# Altium integrated library Actel SmartFusion.IntLib: 80 symbols (part 1 of 14)
Pins are listed as number, name and electrical type; pins without a type are passive.

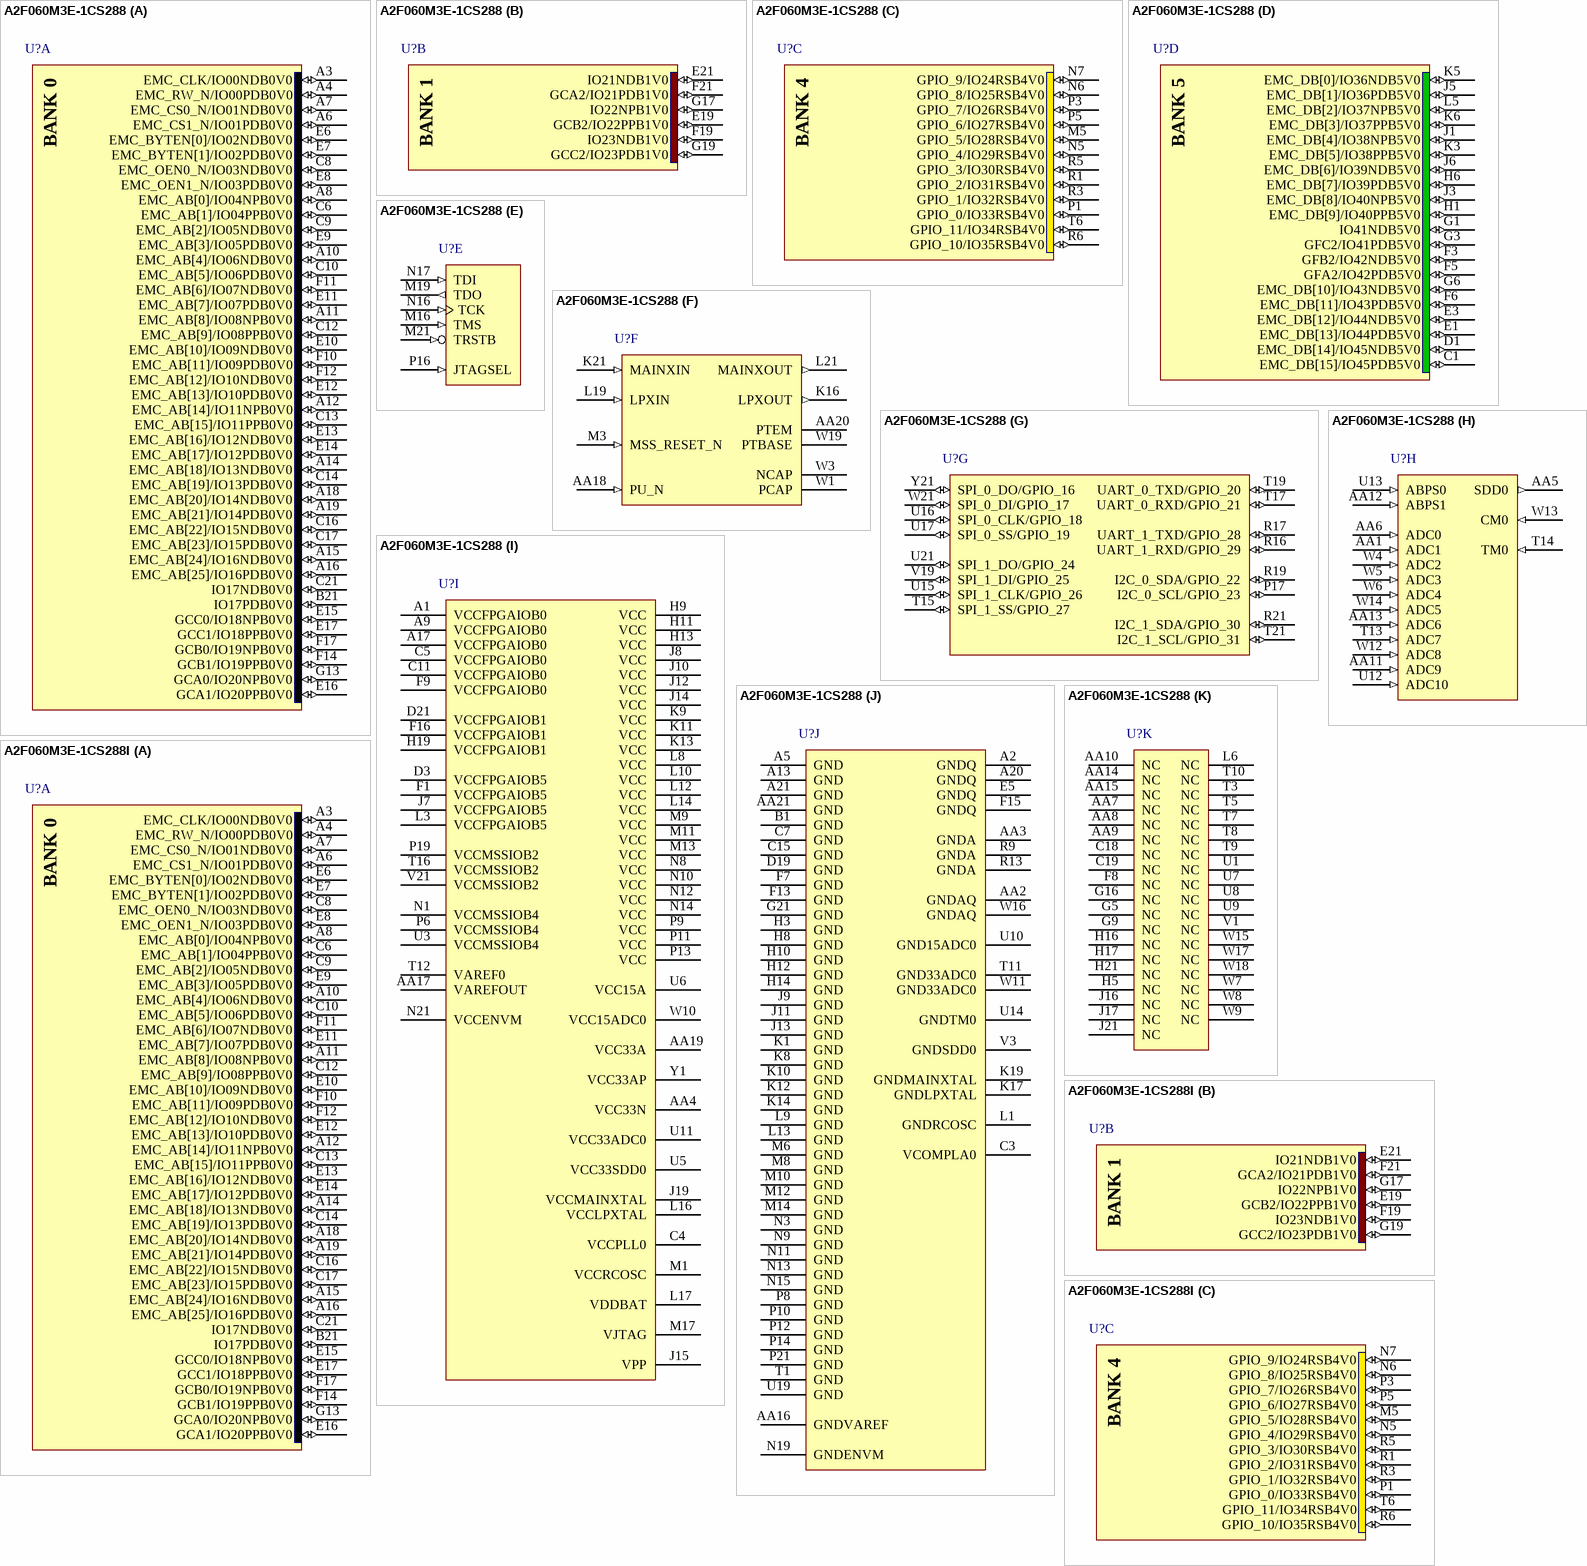
[diagram p0: symbols A2F060M3E-1CS288 to A2F060M3E-1CS288I]

## A2F060M3E-1CS288
designator U?
SmartFusion Intellegent Mixed-Signal FPGA with ARM Cortex-M3, 60000 System Gates, 288-Pin CSP, 15% Faster than Standard Speed Grade, Commercial Grade; DatasheetVersion: rev7, Aug-2011; PackageVersion: rev39, Aug-2010; PackageReference: CS288; PackageDescription: 288-Ball Chip Scale Ball Grid Array 0.5 mm Pitch (CS288); ComponentLink1Description: Manufacturer URL; ComponentLink1URL: http://www.actel.com/; ComponentLink2Description: SmartFusion Datasheet; ComponentLink2URL: http://www.actel.com/documents/SmartFusion_DS.pdf; ComponentLink3Description: Package Mechanical Drawings; ComponentLink3URL: http://www.actel.com/documents/PckgMechDrwngs.pdf; ComponentLink4Description: SmartFusion Documents; ComponentLink4URL: http://www.actel.com/products/smartfusion/docs.aspx
footprint CS288 (BGA, 288-Leads, Body 11x11mm, Pitch 0.5mm)
part A pins: A3 EMC_CLK/IO00NDB0V0 (io), A4 EMC_RW_N/IO00PDB0V0 (io), A6 EMC_CS1_N/IO01PDB0V0 (io), A7 EMC_CS0_N/IO01NDB0V0 (io), A8 EMC_AB[0]/IO04NPB0V0 (io), A10 EMC_AB[4]/IO06NDB0V0 (io), A11 EMC_AB[8]/IO08NPB0V0 (io), A12 EMC_AB[14]/IO11NPB0V0 (io), A14 EMC_AB[18]/IO13NDB0V0 (io), A15 EMC_AB[24]/IO16NDB0V0 (io), A16 EMC_AB[25]/IO16PDB0V0 (io), A18 EMC_AB[20]/IO14NDB0V0 (io), A19 EMC_AB[21]/IO14PDB0V0 (io), B21 IO17PDB0V0 (io), C6 EMC_AB[1]/IO04PPB0V0 (io), C8 EMC_OEN0_N/IO03NDB0V0 (io), C9 EMC_AB[2]/IO05NDB0V0 (io), C10 EMC_AB[5]/IO06PDB0V0 (io), C12 EMC_AB[9]/IO08PPB0V0 (io), C13 EMC_AB[15]/IO11PPB0V0 (io), C14 EMC_AB[19]/IO13PDB0V0 (io), C16 EMC_AB[22]/IO15NDB0V0 (io), C17 EMC_AB[23]/IO15PDB0V0 (io), C21 IO17NDB0V0 (io), E6 EMC_BYTEN[0]/IO02NDB0V0 (io), E7 EMC_BYTEN[1]/IO02PDB0V0 (io), E8 EMC_OEN1_N/IO03PDB0V0 (io), E9 EMC_AB[3]/IO05PDB0V0 (io), E10 EMC_AB[10]/IO09NDB0V0 (io), E11 EMC_AB[7]/IO07PDB0V0 (io), E12 EMC_AB[13]/IO10PDB0V0 (io), E13 EMC_AB[16]/IO12NDB0V0 (io), E14 EMC_AB[17]/IO12PDB0V0 (io), E15 GCC0/IO18NPB0V0 (io), E16 GCA1/IO20PPB0V0 (io), E17 GCC1/IO18PPB0V0 (io), F10 EMC_AB[11]/IO09PDB0V0 (io), F11 EMC_AB[6]/IO07NDB0V0 (io), F12 EMC_AB[12]/IO10NDB0V0 (io), F14 GCB1/IO19PPB0V0 (io), F17 GCB0/IO19NPB0V0 (io), G13 GCA0/IO20NPB0V0 (io)
part B pins: E19 GCB2/IO22PPB1V0 (io), E21 IO21NDB1V0 (io), F19 IO23NDB1V0 (io), F21 GCA2/IO21PDB1V0 (io), G17 IO22NPB1V0 (io), G19 GCC2/IO23PDB1V0 (io)
part C pins: M5 GPIO_5/IO28RSB4V0 (io), N5 GPIO_4/IO29RSB4V0 (io), N6 GPIO_8/IO25RSB4V0 (io), N7 GPIO_9/IO24RSB4V0 (io), P1 GPIO_0/IO33RSB4V0 (io), P3 GPIO_7/IO26RSB4V0 (io), P5 GPIO_6/IO27RSB4V0 (io), R1 GPIO_2/IO31RSB4V0 (io), R3 GPIO_1/IO32RSB4V0 (io), R5 GPIO_3/IO30RSB4V0 (io), R6 GPIO_10/IO35RSB4V0 (io), T6 GPIO_11/IO34RSB4V0 (io)
part D pins: C1 EMC_DB[15]/IO45PDB5V0 (io), D1 EMC_DB[14]/IO45NDB5V0 (io), E1 EMC_DB[13]/IO44PDB5V0 (io), E3 EMC_DB[12]/IO44NDB5V0 (io), F3 GFB2/IO42NDB5V0 (io), F5 GFA2/IO42PDB5V0 (io), F6 EMC_DB[11]/IO43PDB5V0 (io), G1 IO41NDB5V0 (io), G3 GFC2/IO41PDB5V0 (io), G6 EMC_DB[10]/IO43NDB5V0 (io), H1 EMC_DB[9]/IO40PPB5V0 (io), H6 EMC_DB[7]/IO39PDB5V0 (io), J1 EMC_DB[4]/IO38NPB5V0 (io), J3 EMC_DB[8]/IO40NPB5V0 (io), J5 EMC_DB[1]/IO36PDB5V0 (io), J6 EMC_DB[6]/IO39NDB5V0 (io), K3 EMC_DB[5]/IO38PPB5V0 (io), K5 EMC_DB[0]/IO36NDB5V0 (io), K6 EMC_DB[3]/IO37PPB5V0 (io), L5 EMC_DB[2]/IO37NPB5V0 (io)
part E pins: M16 TMS (in), M19 TDO (out), M21 TRSTB (in), N16 TCK (in), N17 TDI (in), P16 JTAGSEL (in)
part F pins: AA18 PU_N (in), AA20 PTEM, K16 LPXOUT (out), K21 MAINXIN (in), L19 LPXIN (in), L21 MAINXOUT (out), M3 MSS_RESET_N (in), W1 PCAP, W3 NCAP, W19 PTBASE
part G pins: P17 I2C_0_SCL/GPIO_23 (io), R16 UART_1_RXD/GPIO_29 (io), R17 UART_1_TXD/GPIO_28 (io), R19 I2C_0_SDA/GPIO_22 (io), R21 I2C_1_SDA/GPIO_30 (io), T15 SPI_1_SS/GPIO_27 (io), T17 UART_0_RXD/GPIO_21 (io), T19 UART_0_TXD/GPIO_20 (io), T21 I2C_1_SCL/GPIO_31 (io), U15 SPI_1_CLK/GPIO_26 (io), U16 SPI_0_CLK/GPIO_18 (io), U17 SPI_0_SS/GPIO_19 (io), U21 SPI_1_DO/GPIO_24 (io), V19 SPI_1_DI/GPIO_25 (io), W21 SPI_0_DI/GPIO_17 (io), Y21 SPI_0_DO/GPIO_16 (io)
part H pins: AA1 ADC1 (in), AA5 SDD0 (out), AA6 ADC0 (in), AA11 ADC9 (in), AA12 ABPS1 (in), AA13 ADC6 (in), T13 ADC7 (in), T14 TM0 (in), U12 ADC10 (in), U13 ABPS0 (in), W4 ADC2 (in), W5 ADC3 (in), W6 ADC4 (in), W12 ADC8 (in), W13 CM0 (in), W14 ADC5 (in)
part I pins: A1 VCCFPGAIOB0 (power), A9 VCCFPGAIOB0 (power), A17 VCCFPGAIOB0 (power), AA4 VCC33N (power), AA17 VAREFOUT (power), AA19 VCC33A (power), C4 VCCPLL0 (power), C5 VCCFPGAIOB0 (power), C11 VCCFPGAIOB0 (power), D3 VCCFPGAIOB5 (power), D21 VCCFPGAIOB1 (power), F1 VCCFPGAIOB5 (power), F9 VCCFPGAIOB0 (power), F16 VCCFPGAIOB1 (power), H9 VCC (power), H11 VCC (power), H13 VCC (power), H19 VCCFPGAIOB1 (power), J7 VCCFPGAIOB5 (power), J8 VCC (power), J10 VCC (power), J12 VCC (power), J14 VCC (power), J15 VPP (power), J19 VCCMAINXTAL (power), K9 VCC (power), K11 VCC (power), K13 VCC (power), L3 VCCFPGAIOB5 (power), L8 VCC (power), L10 VCC (power), L12 VCC (power), L14 VCC (power), L16 VCCLPXTAL (power), L17 VDDBAT (power), M1 VCCRCOSC (power), M9 VCC (power), M11 VCC (power), M13 VCC (power), M17 VJTAG (power), N1 VCCMSSIOB4 (power), N8 VCC (power), N10 VCC (power), N12 VCC (power), N14 VCC (power), N21 VCCENVM (power), P6 VCCMSSIOB4 (power), P9 VCC (power), P11 VCC (power), P13 VCC (power), P19 VCCMSSIOB2 (power), T12 VAREF0 (power), T16 VCCMSSIOB2 (power), U3 VCCMSSIOB4 (power), U5 VCC33SDD0 (power), U6 VCC15A (power), U11 VCC33ADC0 (power), V21 VCCMSSIOB2 (power), W10 VCC15ADC0 (power), Y1 VCC33AP (power)
part J pins: A2 GNDQ (power), A5 GND (power), A13 GND (power), A20 GNDQ (power), A21 GND (power), AA2 GNDAQ (power), AA3 GNDA (power), AA16 GNDVAREF (power), AA21 GND (power), B1 GND (power), C3 VCOMPLA0 (power), C7 GND (power), C15 GND (power), D19 GND (power), E5 GNDQ (power), F7 GND (power), F13 GND (power), F15 GNDQ (power), G21 GND (power), H3 GND (power), H8 GND (power), H10 GND (power), H12 GND (power), H14 GND (power), J9 GND (power), J11 GND (power), J13 GND (power), K1 GND (power), K8 GND (power), K10 GND (power), K12 GND (power), K14 GND (power), K17 GNDLPXTAL (power), K19 GNDMAINXTAL (power), L1 GNDRCOSC (power), L9 GND (power), L13 GND (power), M6 GND (power), M8 GND (power), M10 GND (power), M12 GND (power), M14 GND (power), N3 GND (power), N9 GND (power), N11 GND (power), N13 GND (power), N15 GND (power), N19 GNDENVM (power), P8 GND (power), P10 GND (power), P12 GND (power), P14 GND (power), P21 GND (power), R9 GNDA (power), R13 GNDA (power), T1 GND (power), T11 GND33ADC0 (power), U10 GND15ADC0 (power), U14 GNDTM0 (power), U19 GND (power), V3 GNDSDD0 (power), W11 GND33ADC0 (power), W16 GNDAQ (power)
part K pins: AA7 NC, AA8 NC, AA9 NC, AA10 NC, AA14 NC, AA15 NC, C18 NC, C19 NC, F8 NC, G5 NC, G9 NC, G16 NC, H5 NC, H16 NC, H17 NC, H21 NC, J16 NC, J17 NC, J21 NC, L6 NC, T3 NC, T5 NC, T7 NC, T8 NC, T9 NC, T10 NC, U1 NC, U7 NC, U8 NC, U9 NC, V1 NC, W7 NC, W8 NC, W9 NC, W15 NC, W17 NC, W18 NC
part A text: BANK 0
part B text: BANK 1
part C text: BANK 4
part D text: BANK 5

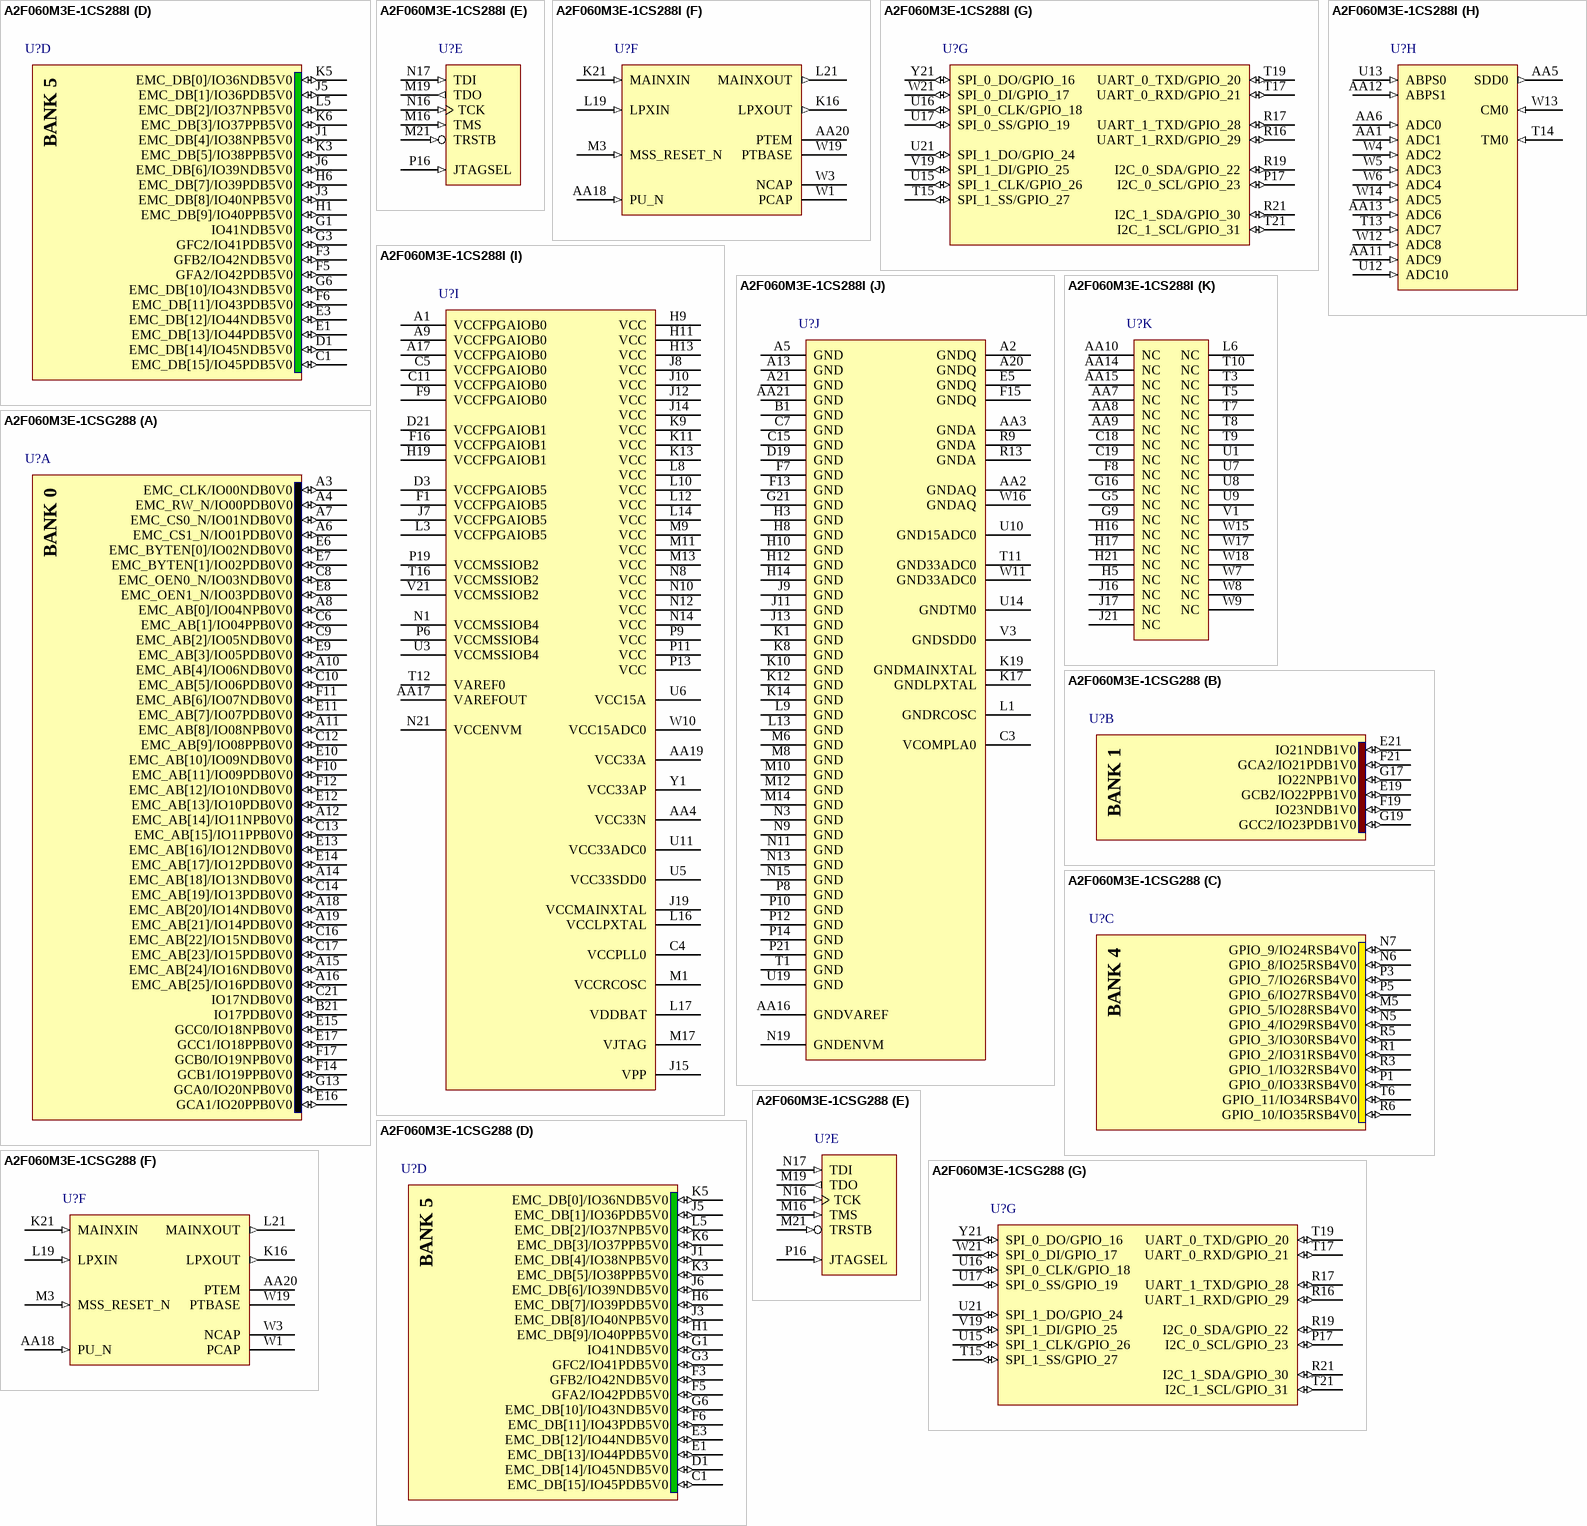
[diagram p1: symbols A2F060M3E-1CS288I to A2F060M3E-1CSG288]

## A2F060M3E-1CS288I
designator U?
SmartFusion Intellegent Mixed-Signal FPGA with ARM Cortex-M3, 60000 System Gates, 288-Pin CSP, 15% Faster than Standard Speed Grade, Industrial Grade; DatasheetVersion: rev7, Aug-2011; PackageVersion: rev39, Aug-2010; PackageReference: CS288; PackageDescription: 288-Ball Chip Scale Ball Grid Array 0.5 mm Pitch (CS288); ComponentLink1Description: Manufacturer URL; ComponentLink1URL: http://www.actel.com/; ComponentLink2Description: SmartFusion Datasheet; ComponentLink2URL: http://www.actel.com/documents/SmartFusion_DS.pdf; ComponentLink3Description: Package Mechanical Drawings; ComponentLink3URL: http://www.actel.com/documents/PckgMechDrwngs.pdf; ComponentLink4Description: SmartFusion Documents; ComponentLink4URL: http://www.actel.com/products/smartfusion/docs.aspx
footprint CS288 (BGA, 288-Leads, Body 11x11mm, Pitch 0.5mm)
part A pins: A3 EMC_CLK/IO00NDB0V0 (io), A4 EMC_RW_N/IO00PDB0V0 (io), A6 EMC_CS1_N/IO01PDB0V0 (io), A7 EMC_CS0_N/IO01NDB0V0 (io), A8 EMC_AB[0]/IO04NPB0V0 (io), A10 EMC_AB[4]/IO06NDB0V0 (io), A11 EMC_AB[8]/IO08NPB0V0 (io), A12 EMC_AB[14]/IO11NPB0V0 (io), A14 EMC_AB[18]/IO13NDB0V0 (io), A15 EMC_AB[24]/IO16NDB0V0 (io), A16 EMC_AB[25]/IO16PDB0V0 (io), A18 EMC_AB[20]/IO14NDB0V0 (io), A19 EMC_AB[21]/IO14PDB0V0 (io), B21 IO17PDB0V0 (io), C6 EMC_AB[1]/IO04PPB0V0 (io), C8 EMC_OEN0_N/IO03NDB0V0 (io), C9 EMC_AB[2]/IO05NDB0V0 (io), C10 EMC_AB[5]/IO06PDB0V0 (io), C12 EMC_AB[9]/IO08PPB0V0 (io), C13 EMC_AB[15]/IO11PPB0V0 (io), C14 EMC_AB[19]/IO13PDB0V0 (io), C16 EMC_AB[22]/IO15NDB0V0 (io), C17 EMC_AB[23]/IO15PDB0V0 (io), C21 IO17NDB0V0 (io), E6 EMC_BYTEN[0]/IO02NDB0V0 (io), E7 EMC_BYTEN[1]/IO02PDB0V0 (io), E8 EMC_OEN1_N/IO03PDB0V0 (io), E9 EMC_AB[3]/IO05PDB0V0 (io), E10 EMC_AB[10]/IO09NDB0V0 (io), E11 EMC_AB[7]/IO07PDB0V0 (io), E12 EMC_AB[13]/IO10PDB0V0 (io), E13 EMC_AB[16]/IO12NDB0V0 (io), E14 EMC_AB[17]/IO12PDB0V0 (io), E15 GCC0/IO18NPB0V0 (io), E16 GCA1/IO20PPB0V0 (io), E17 GCC1/IO18PPB0V0 (io), F10 EMC_AB[11]/IO09PDB0V0 (io), F11 EMC_AB[6]/IO07NDB0V0 (io), F12 EMC_AB[12]/IO10NDB0V0 (io), F14 GCB1/IO19PPB0V0 (io), F17 GCB0/IO19NPB0V0 (io), G13 GCA0/IO20NPB0V0 (io)
part B pins: E19 GCB2/IO22PPB1V0 (io), E21 IO21NDB1V0 (io), F19 IO23NDB1V0 (io), F21 GCA2/IO21PDB1V0 (io), G17 IO22NPB1V0 (io), G19 GCC2/IO23PDB1V0 (io)
part C pins: M5 GPIO_5/IO28RSB4V0 (io), N5 GPIO_4/IO29RSB4V0 (io), N6 GPIO_8/IO25RSB4V0 (io), N7 GPIO_9/IO24RSB4V0 (io), P1 GPIO_0/IO33RSB4V0 (io), P3 GPIO_7/IO26RSB4V0 (io), P5 GPIO_6/IO27RSB4V0 (io), R1 GPIO_2/IO31RSB4V0 (io), R3 GPIO_1/IO32RSB4V0 (io), R5 GPIO_3/IO30RSB4V0 (io), R6 GPIO_10/IO35RSB4V0 (io), T6 GPIO_11/IO34RSB4V0 (io)
part D pins: C1 EMC_DB[15]/IO45PDB5V0 (io), D1 EMC_DB[14]/IO45NDB5V0 (io), E1 EMC_DB[13]/IO44PDB5V0 (io), E3 EMC_DB[12]/IO44NDB5V0 (io), F3 GFB2/IO42NDB5V0 (io), F5 GFA2/IO42PDB5V0 (io), F6 EMC_DB[11]/IO43PDB5V0 (io), G1 IO41NDB5V0 (io), G3 GFC2/IO41PDB5V0 (io), G6 EMC_DB[10]/IO43NDB5V0 (io), H1 EMC_DB[9]/IO40PPB5V0 (io), H6 EMC_DB[7]/IO39PDB5V0 (io), J1 EMC_DB[4]/IO38NPB5V0 (io), J3 EMC_DB[8]/IO40NPB5V0 (io), J5 EMC_DB[1]/IO36PDB5V0 (io), J6 EMC_DB[6]/IO39NDB5V0 (io), K3 EMC_DB[5]/IO38PPB5V0 (io), K5 EMC_DB[0]/IO36NDB5V0 (io), K6 EMC_DB[3]/IO37PPB5V0 (io), L5 EMC_DB[2]/IO37NPB5V0 (io)
part E pins: M16 TMS (in), M19 TDO (out), M21 TRSTB (in), N16 TCK (in), N17 TDI (in), P16 JTAGSEL (in)
part F pins: AA18 PU_N (in), AA20 PTEM, K16 LPXOUT (out), K21 MAINXIN (in), L19 LPXIN (in), L21 MAINXOUT (out), M3 MSS_RESET_N (in), W1 PCAP, W3 NCAP, W19 PTBASE
part G pins: P17 I2C_0_SCL/GPIO_23 (io), R16 UART_1_RXD/GPIO_29 (io), R17 UART_1_TXD/GPIO_28 (io), R19 I2C_0_SDA/GPIO_22 (io), R21 I2C_1_SDA/GPIO_30 (io), T15 SPI_1_SS/GPIO_27 (io), T17 UART_0_RXD/GPIO_21 (io), T19 UART_0_TXD/GPIO_20 (io), T21 I2C_1_SCL/GPIO_31 (io), U15 SPI_1_CLK/GPIO_26 (io), U16 SPI_0_CLK/GPIO_18 (io), U17 SPI_0_SS/GPIO_19 (io), U21 SPI_1_DO/GPIO_24 (io), V19 SPI_1_DI/GPIO_25 (io), W21 SPI_0_DI/GPIO_17 (io), Y21 SPI_0_DO/GPIO_16 (io)
part H pins: AA1 ADC1 (in), AA5 SDD0 (out), AA6 ADC0 (in), AA11 ADC9 (in), AA12 ABPS1 (in), AA13 ADC6 (in), T13 ADC7 (in), T14 TM0 (in), U12 ADC10 (in), U13 ABPS0 (in), W4 ADC2 (in), W5 ADC3 (in), W6 ADC4 (in), W12 ADC8 (in), W13 CM0 (in), W14 ADC5 (in)
part I pins: A1 VCCFPGAIOB0 (power), A9 VCCFPGAIOB0 (power), A17 VCCFPGAIOB0 (power), AA4 VCC33N (power), AA17 VAREFOUT (power), AA19 VCC33A (power), C4 VCCPLL0 (power), C5 VCCFPGAIOB0 (power), C11 VCCFPGAIOB0 (power), D3 VCCFPGAIOB5 (power), D21 VCCFPGAIOB1 (power), F1 VCCFPGAIOB5 (power), F9 VCCFPGAIOB0 (power), F16 VCCFPGAIOB1 (power), H9 VCC (power), H11 VCC (power), H13 VCC (power), H19 VCCFPGAIOB1 (power), J7 VCCFPGAIOB5 (power), J8 VCC (power), J10 VCC (power), J12 VCC (power), J14 VCC (power), J15 VPP (power), J19 VCCMAINXTAL (power), K9 VCC (power), K11 VCC (power), K13 VCC (power), L3 VCCFPGAIOB5 (power), L8 VCC (power), L10 VCC (power), L12 VCC (power), L14 VCC (power), L16 VCCLPXTAL (power), L17 VDDBAT (power), M1 VCCRCOSC (power), M9 VCC (power), M11 VCC (power), M13 VCC (power), M17 VJTAG (power), N1 VCCMSSIOB4 (power), N8 VCC (power), N10 VCC (power), N12 VCC (power), N14 VCC (power), N21 VCCENVM (power), P6 VCCMSSIOB4 (power), P9 VCC (power), P11 VCC (power), P13 VCC (power), P19 VCCMSSIOB2 (power), T12 VAREF0 (power), T16 VCCMSSIOB2 (power), U3 VCCMSSIOB4 (power), U5 VCC33SDD0 (power), U6 VCC15A (power), U11 VCC33ADC0 (power), V21 VCCMSSIOB2 (power), W10 VCC15ADC0 (power), Y1 VCC33AP (power)
part J pins: A2 GNDQ (power), A5 GND (power), A13 GND (power), A20 GNDQ (power), A21 GND (power), AA2 GNDAQ (power), AA3 GNDA (power), AA16 GNDVAREF (power), AA21 GND (power), B1 GND (power), C3 VCOMPLA0 (power), C7 GND (power), C15 GND (power), D19 GND (power), E5 GNDQ (power), F7 GND (power), F13 GND (power), F15 GNDQ (power), G21 GND (power), H3 GND (power), H8 GND (power), H10 GND (power), H12 GND (power), H14 GND (power), J9 GND (power), J11 GND (power), J13 GND (power), K1 GND (power), K8 GND (power), K10 GND (power), K12 GND (power), K14 GND (power), K17 GNDLPXTAL (power), K19 GNDMAINXTAL (power), L1 GNDRCOSC (power), L9 GND (power), L13 GND (power), M6 GND (power), M8 GND (power), M10 GND (power), M12 GND (power), M14 GND (power), N3 GND (power), N9 GND (power), N11 GND (power), N13 GND (power), N15 GND (power), N19 GNDENVM (power), P8 GND (power), P10 GND (power), P12 GND (power), P14 GND (power), P21 GND (power), R9 GNDA (power), R13 GNDA (power), T1 GND (power), T11 GND33ADC0 (power), U10 GND15ADC0 (power), U14 GNDTM0 (power), U19 GND (power), V3 GNDSDD0 (power), W11 GND33ADC0 (power), W16 GNDAQ (power)
part K pins: AA7 NC, AA8 NC, AA9 NC, AA10 NC, AA14 NC, AA15 NC, C18 NC, C19 NC, F8 NC, G5 NC, G9 NC, G16 NC, H5 NC, H16 NC, H17 NC, H21 NC, J16 NC, J17 NC, J21 NC, L6 NC, T3 NC, T5 NC, T7 NC, T8 NC, T9 NC, T10 NC, U1 NC, U7 NC, U8 NC, U9 NC, V1 NC, W7 NC, W8 NC, W9 NC, W15 NC, W17 NC, W18 NC
part A text: BANK 0
part B text: BANK 1
part C text: BANK 4
part D text: BANK 5

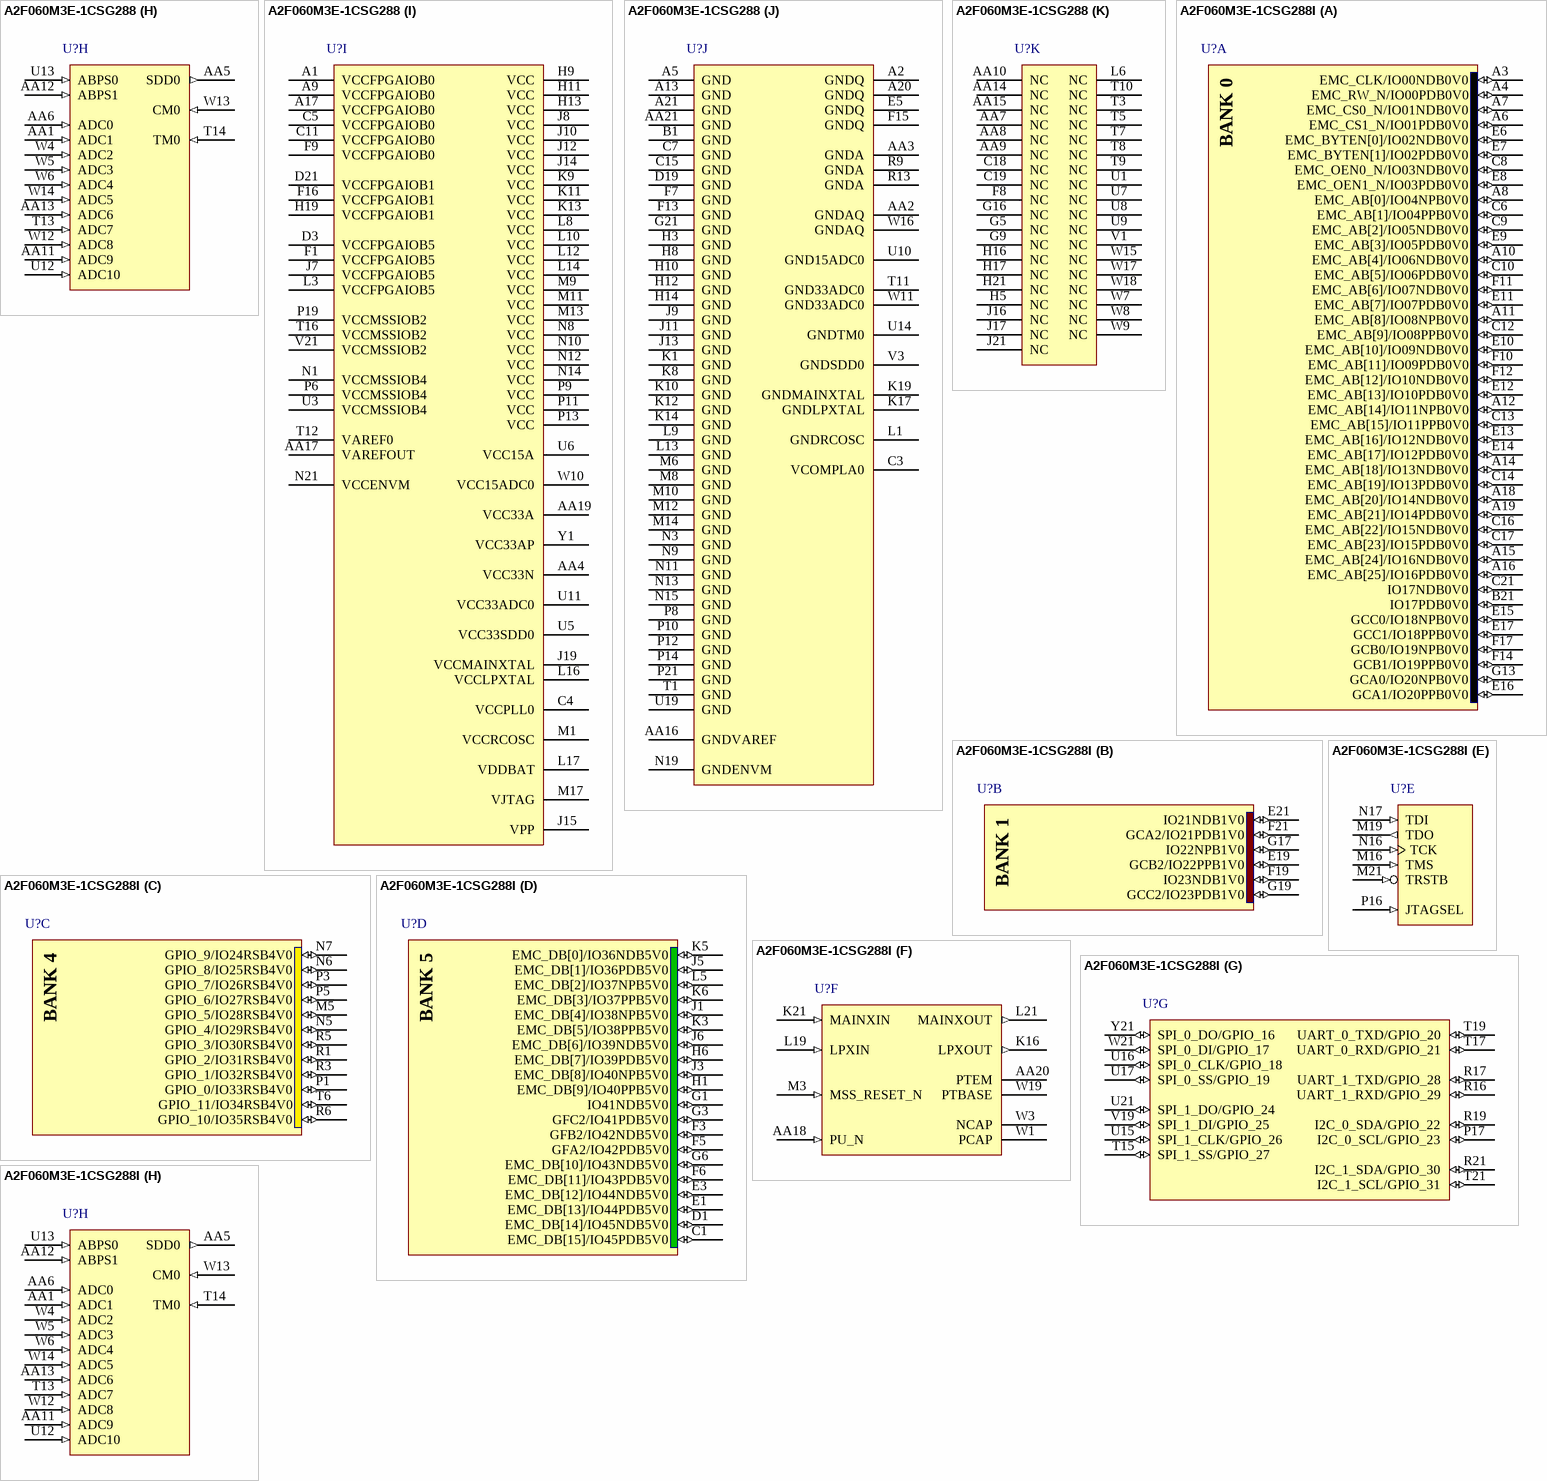
[diagram p2: symbols A2F060M3E-1CSG288 to A2F060M3E-1CSG288I]

## A2F060M3E-1CSG288
designator U?
SmartFusion Intellegent Mixed-Signal FPGA with ARM Cortex-M3, 60000 System Gates, 288-Pin CSP, 15% Faster than Standard Speed Grade, Commercial Grade, Pb-Free; DatasheetVersion: rev7, Aug-2011; PackageVersion: rev39, Aug-2010; PackageReference: CS288; PackageDescription: 288-Ball Chip Scale Ball Grid Array 0.5 mm Pitch (CS288); ComponentLink1Description: Manufacturer URL; ComponentLink1URL: http://www.actel.com/; ComponentLink2Description: SmartFusion Datasheet; ComponentLink2URL: http://www.actel.com/documents/SmartFusion_DS.pdf; ComponentLink3Description: Package Mechanical Drawings; ComponentLink3URL: http://www.actel.com/documents/PckgMechDrwngs.pdf; ComponentLink4Description: SmartFusion Documents; ComponentLink4URL: http://www.actel.com/products/smartfusion/docs.aspx
footprint CS288 (BGA, 288-Leads, Body 11x11mm, Pitch 0.5mm)
part A pins: A3 EMC_CLK/IO00NDB0V0 (io), A4 EMC_RW_N/IO00PDB0V0 (io), A6 EMC_CS1_N/IO01PDB0V0 (io), A7 EMC_CS0_N/IO01NDB0V0 (io), A8 EMC_AB[0]/IO04NPB0V0 (io), A10 EMC_AB[4]/IO06NDB0V0 (io), A11 EMC_AB[8]/IO08NPB0V0 (io), A12 EMC_AB[14]/IO11NPB0V0 (io), A14 EMC_AB[18]/IO13NDB0V0 (io), A15 EMC_AB[24]/IO16NDB0V0 (io), A16 EMC_AB[25]/IO16PDB0V0 (io), A18 EMC_AB[20]/IO14NDB0V0 (io), A19 EMC_AB[21]/IO14PDB0V0 (io), B21 IO17PDB0V0 (io), C6 EMC_AB[1]/IO04PPB0V0 (io), C8 EMC_OEN0_N/IO03NDB0V0 (io), C9 EMC_AB[2]/IO05NDB0V0 (io), C10 EMC_AB[5]/IO06PDB0V0 (io), C12 EMC_AB[9]/IO08PPB0V0 (io), C13 EMC_AB[15]/IO11PPB0V0 (io), C14 EMC_AB[19]/IO13PDB0V0 (io), C16 EMC_AB[22]/IO15NDB0V0 (io), C17 EMC_AB[23]/IO15PDB0V0 (io), C21 IO17NDB0V0 (io), E6 EMC_BYTEN[0]/IO02NDB0V0 (io), E7 EMC_BYTEN[1]/IO02PDB0V0 (io), E8 EMC_OEN1_N/IO03PDB0V0 (io), E9 EMC_AB[3]/IO05PDB0V0 (io), E10 EMC_AB[10]/IO09NDB0V0 (io), E11 EMC_AB[7]/IO07PDB0V0 (io), E12 EMC_AB[13]/IO10PDB0V0 (io), E13 EMC_AB[16]/IO12NDB0V0 (io), E14 EMC_AB[17]/IO12PDB0V0 (io), E15 GCC0/IO18NPB0V0 (io), E16 GCA1/IO20PPB0V0 (io), E17 GCC1/IO18PPB0V0 (io), F10 EMC_AB[11]/IO09PDB0V0 (io), F11 EMC_AB[6]/IO07NDB0V0 (io), F12 EMC_AB[12]/IO10NDB0V0 (io), F14 GCB1/IO19PPB0V0 (io), F17 GCB0/IO19NPB0V0 (io), G13 GCA0/IO20NPB0V0 (io)
part B pins: E19 GCB2/IO22PPB1V0 (io), E21 IO21NDB1V0 (io), F19 IO23NDB1V0 (io), F21 GCA2/IO21PDB1V0 (io), G17 IO22NPB1V0 (io), G19 GCC2/IO23PDB1V0 (io)
part C pins: M5 GPIO_5/IO28RSB4V0 (io), N5 GPIO_4/IO29RSB4V0 (io), N6 GPIO_8/IO25RSB4V0 (io), N7 GPIO_9/IO24RSB4V0 (io), P1 GPIO_0/IO33RSB4V0 (io), P3 GPIO_7/IO26RSB4V0 (io), P5 GPIO_6/IO27RSB4V0 (io), R1 GPIO_2/IO31RSB4V0 (io), R3 GPIO_1/IO32RSB4V0 (io), R5 GPIO_3/IO30RSB4V0 (io), R6 GPIO_10/IO35RSB4V0 (io), T6 GPIO_11/IO34RSB4V0 (io)
part D pins: C1 EMC_DB[15]/IO45PDB5V0 (io), D1 EMC_DB[14]/IO45NDB5V0 (io), E1 EMC_DB[13]/IO44PDB5V0 (io), E3 EMC_DB[12]/IO44NDB5V0 (io), F3 GFB2/IO42NDB5V0 (io), F5 GFA2/IO42PDB5V0 (io), F6 EMC_DB[11]/IO43PDB5V0 (io), G1 IO41NDB5V0 (io), G3 GFC2/IO41PDB5V0 (io), G6 EMC_DB[10]/IO43NDB5V0 (io), H1 EMC_DB[9]/IO40PPB5V0 (io), H6 EMC_DB[7]/IO39PDB5V0 (io), J1 EMC_DB[4]/IO38NPB5V0 (io), J3 EMC_DB[8]/IO40NPB5V0 (io), J5 EMC_DB[1]/IO36PDB5V0 (io), J6 EMC_DB[6]/IO39NDB5V0 (io), K3 EMC_DB[5]/IO38PPB5V0 (io), K5 EMC_DB[0]/IO36NDB5V0 (io), K6 EMC_DB[3]/IO37PPB5V0 (io), L5 EMC_DB[2]/IO37NPB5V0 (io)
part E pins: M16 TMS (in), M19 TDO (out), M21 TRSTB (in), N16 TCK (in), N17 TDI (in), P16 JTAGSEL (in)
part F pins: AA18 PU_N (in), AA20 PTEM, K16 LPXOUT (out), K21 MAINXIN (in), L19 LPXIN (in), L21 MAINXOUT (out), M3 MSS_RESET_N (in), W1 PCAP, W3 NCAP, W19 PTBASE
part G pins: P17 I2C_0_SCL/GPIO_23 (io), R16 UART_1_RXD/GPIO_29 (io), R17 UART_1_TXD/GPIO_28 (io), R19 I2C_0_SDA/GPIO_22 (io), R21 I2C_1_SDA/GPIO_30 (io), T15 SPI_1_SS/GPIO_27 (io), T17 UART_0_RXD/GPIO_21 (io), T19 UART_0_TXD/GPIO_20 (io), T21 I2C_1_SCL/GPIO_31 (io), U15 SPI_1_CLK/GPIO_26 (io), U16 SPI_0_CLK/GPIO_18 (io), U17 SPI_0_SS/GPIO_19 (io), U21 SPI_1_DO/GPIO_24 (io), V19 SPI_1_DI/GPIO_25 (io), W21 SPI_0_DI/GPIO_17 (io), Y21 SPI_0_DO/GPIO_16 (io)
part H pins: AA1 ADC1 (in), AA5 SDD0 (out), AA6 ADC0 (in), AA11 ADC9 (in), AA12 ABPS1 (in), AA13 ADC6 (in), T13 ADC7 (in), T14 TM0 (in), U12 ADC10 (in), U13 ABPS0 (in), W4 ADC2 (in), W5 ADC3 (in), W6 ADC4 (in), W12 ADC8 (in), W13 CM0 (in), W14 ADC5 (in)
part I pins: A1 VCCFPGAIOB0 (power), A9 VCCFPGAIOB0 (power), A17 VCCFPGAIOB0 (power), AA4 VCC33N (power), AA17 VAREFOUT (power), AA19 VCC33A (power), C4 VCCPLL0 (power), C5 VCCFPGAIOB0 (power), C11 VCCFPGAIOB0 (power), D3 VCCFPGAIOB5 (power), D21 VCCFPGAIOB1 (power), F1 VCCFPGAIOB5 (power), F9 VCCFPGAIOB0 (power), F16 VCCFPGAIOB1 (power), H9 VCC (power), H11 VCC (power), H13 VCC (power), H19 VCCFPGAIOB1 (power), J7 VCCFPGAIOB5 (power), J8 VCC (power), J10 VCC (power), J12 VCC (power), J14 VCC (power), J15 VPP (power), J19 VCCMAINXTAL (power), K9 VCC (power), K11 VCC (power), K13 VCC (power), L3 VCCFPGAIOB5 (power), L8 VCC (power), L10 VCC (power), L12 VCC (power), L14 VCC (power), L16 VCCLPXTAL (power), L17 VDDBAT (power), M1 VCCRCOSC (power), M9 VCC (power), M11 VCC (power), M13 VCC (power), M17 VJTAG (power), N1 VCCMSSIOB4 (power), N8 VCC (power), N10 VCC (power), N12 VCC (power), N14 VCC (power), N21 VCCENVM (power), P6 VCCMSSIOB4 (power), P9 VCC (power), P11 VCC (power), P13 VCC (power), P19 VCCMSSIOB2 (power), T12 VAREF0 (power), T16 VCCMSSIOB2 (power), U3 VCCMSSIOB4 (power), U5 VCC33SDD0 (power), U6 VCC15A (power), U11 VCC33ADC0 (power), V21 VCCMSSIOB2 (power), W10 VCC15ADC0 (power), Y1 VCC33AP (power)
part J pins: A2 GNDQ (power), A5 GND (power), A13 GND (power), A20 GNDQ (power), A21 GND (power), AA2 GNDAQ (power), AA3 GNDA (power), AA16 GNDVAREF (power), AA21 GND (power), B1 GND (power), C3 VCOMPLA0 (power), C7 GND (power), C15 GND (power), D19 GND (power), E5 GNDQ (power), F7 GND (power), F13 GND (power), F15 GNDQ (power), G21 GND (power), H3 GND (power), H8 GND (power), H10 GND (power), H12 GND (power), H14 GND (power), J9 GND (power), J11 GND (power), J13 GND (power), K1 GND (power), K8 GND (power), K10 GND (power), K12 GND (power), K14 GND (power), K17 GNDLPXTAL (power), K19 GNDMAINXTAL (power), L1 GNDRCOSC (power), L9 GND (power), L13 GND (power), M6 GND (power), M8 GND (power), M10 GND (power), M12 GND (power), M14 GND (power), N3 GND (power), N9 GND (power), N11 GND (power), N13 GND (power), N15 GND (power), N19 GNDENVM (power), P8 GND (power), P10 GND (power), P12 GND (power), P14 GND (power), P21 GND (power), R9 GNDA (power), R13 GNDA (power), T1 GND (power), T11 GND33ADC0 (power), U10 GND15ADC0 (power), U14 GNDTM0 (power), U19 GND (power), V3 GNDSDD0 (power), W11 GND33ADC0 (power), W16 GNDAQ (power)
part K pins: AA7 NC, AA8 NC, AA9 NC, AA10 NC, AA14 NC, AA15 NC, C18 NC, C19 NC, F8 NC, G5 NC, G9 NC, G16 NC, H5 NC, H16 NC, H17 NC, H21 NC, J16 NC, J17 NC, J21 NC, L6 NC, T3 NC, T5 NC, T7 NC, T8 NC, T9 NC, T10 NC, U1 NC, U7 NC, U8 NC, U9 NC, V1 NC, W7 NC, W8 NC, W9 NC, W15 NC, W17 NC, W18 NC
part A text: BANK 0
part B text: BANK 1
part C text: BANK 4
part D text: BANK 5

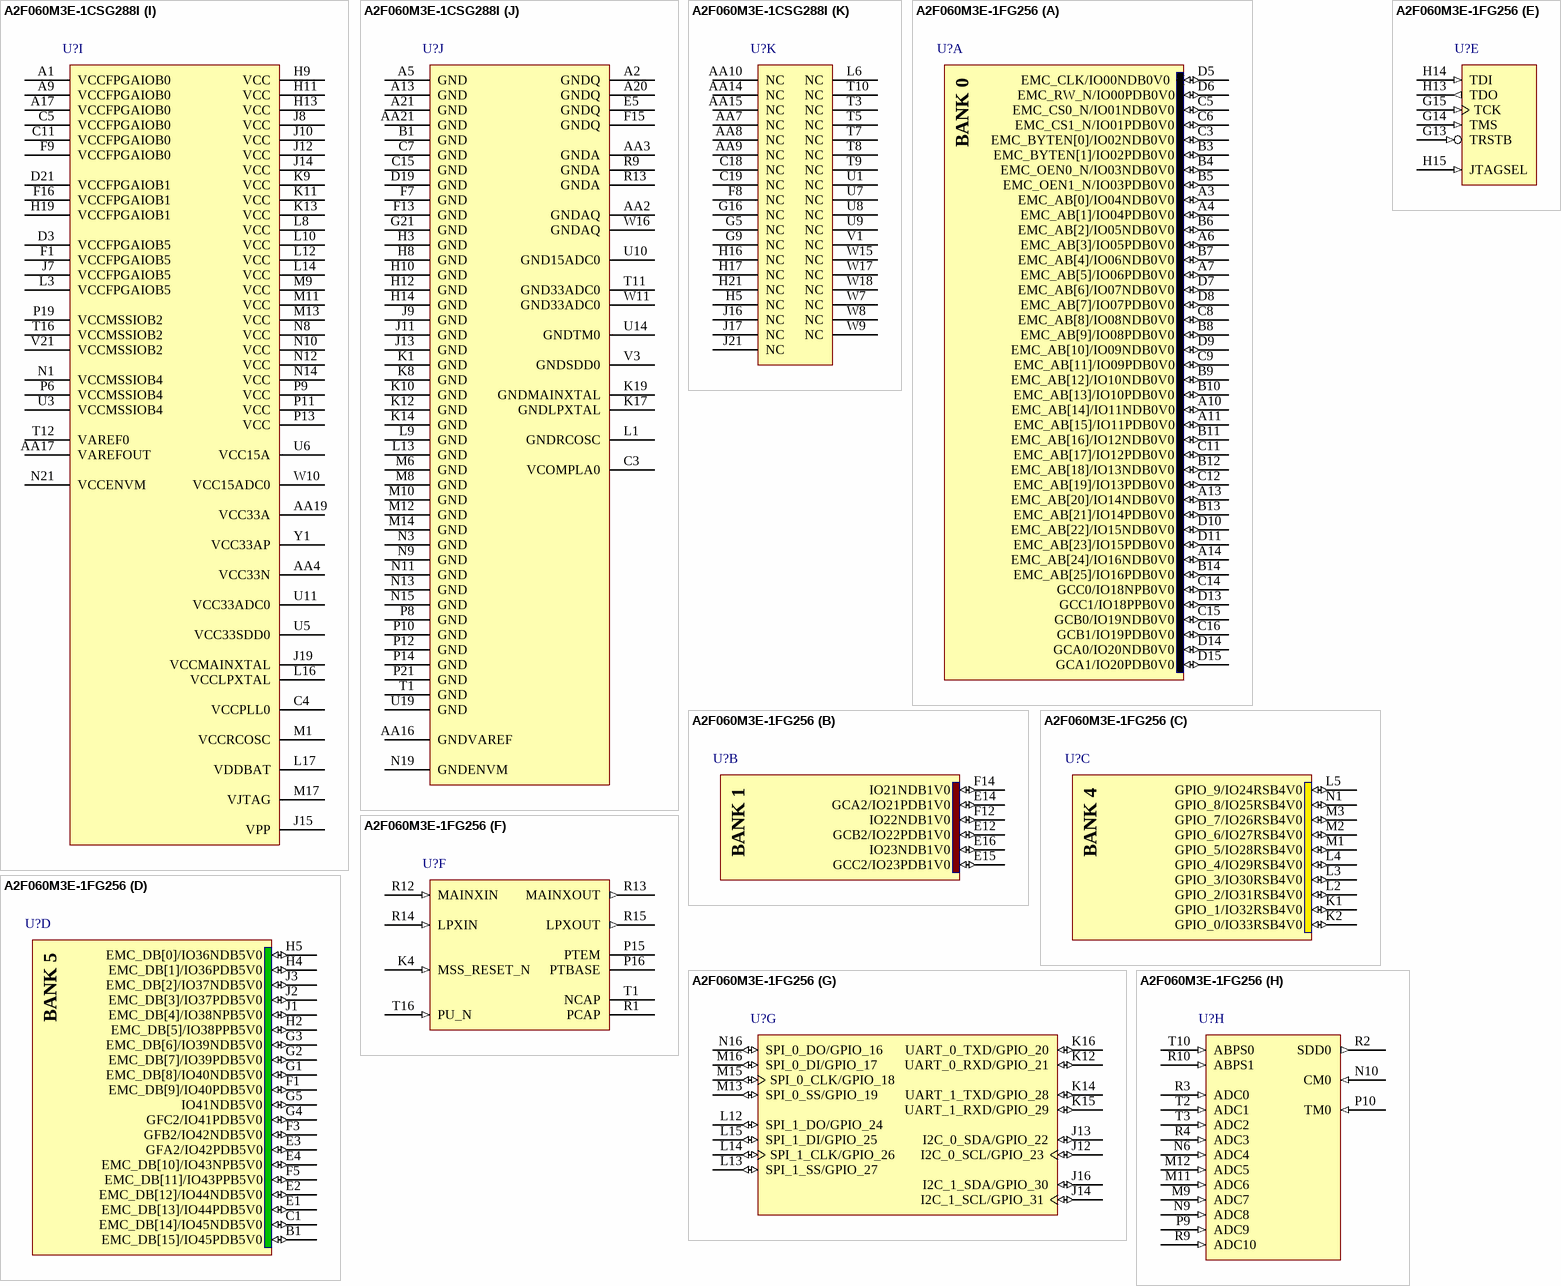
[diagram p3: symbols A2F060M3E-1CSG288I to A2F060M3E-1FG256]

## A2F060M3E-1CSG288I
designator U?
SmartFusion Intellegent Mixed-Signal FPGA with ARM Cortex-M3, 60000 System Gates, 288-Pin CSP, 15% Faster than Standard Speed Grade, Industrial Grade, Pb-Free; DatasheetVersion: rev7, Aug-2011; PackageVersion: rev39, Aug-2010; PackageReference: CS288; PackageDescription: 288-Ball Chip Scale Ball Grid Array 0.5 mm Pitch (CS288); ComponentLink1Description: Manufacturer URL; ComponentLink1URL: http://www.actel.com/; ComponentLink2Description: SmartFusion Datasheet; ComponentLink2URL: http://www.actel.com/documents/SmartFusion_DS.pdf; ComponentLink3Description: Package Mechanical Drawings; ComponentLink3URL: http://www.actel.com/documents/PckgMechDrwngs.pdf; ComponentLink4Description: SmartFusion Documents; ComponentLink4URL: http://www.actel.com/products/smartfusion/docs.aspx
footprint CS288 (BGA, 288-Leads, Body 11x11mm, Pitch 0.5mm)
part A pins: A3 EMC_CLK/IO00NDB0V0 (io), A4 EMC_RW_N/IO00PDB0V0 (io), A6 EMC_CS1_N/IO01PDB0V0 (io), A7 EMC_CS0_N/IO01NDB0V0 (io), A8 EMC_AB[0]/IO04NPB0V0 (io), A10 EMC_AB[4]/IO06NDB0V0 (io), A11 EMC_AB[8]/IO08NPB0V0 (io), A12 EMC_AB[14]/IO11NPB0V0 (io), A14 EMC_AB[18]/IO13NDB0V0 (io), A15 EMC_AB[24]/IO16NDB0V0 (io), A16 EMC_AB[25]/IO16PDB0V0 (io), A18 EMC_AB[20]/IO14NDB0V0 (io), A19 EMC_AB[21]/IO14PDB0V0 (io), B21 IO17PDB0V0 (io), C6 EMC_AB[1]/IO04PPB0V0 (io), C8 EMC_OEN0_N/IO03NDB0V0 (io), C9 EMC_AB[2]/IO05NDB0V0 (io), C10 EMC_AB[5]/IO06PDB0V0 (io), C12 EMC_AB[9]/IO08PPB0V0 (io), C13 EMC_AB[15]/IO11PPB0V0 (io), C14 EMC_AB[19]/IO13PDB0V0 (io), C16 EMC_AB[22]/IO15NDB0V0 (io), C17 EMC_AB[23]/IO15PDB0V0 (io), C21 IO17NDB0V0 (io), E6 EMC_BYTEN[0]/IO02NDB0V0 (io), E7 EMC_BYTEN[1]/IO02PDB0V0 (io), E8 EMC_OEN1_N/IO03PDB0V0 (io), E9 EMC_AB[3]/IO05PDB0V0 (io), E10 EMC_AB[10]/IO09NDB0V0 (io), E11 EMC_AB[7]/IO07PDB0V0 (io), E12 EMC_AB[13]/IO10PDB0V0 (io), E13 EMC_AB[16]/IO12NDB0V0 (io), E14 EMC_AB[17]/IO12PDB0V0 (io), E15 GCC0/IO18NPB0V0 (io), E16 GCA1/IO20PPB0V0 (io), E17 GCC1/IO18PPB0V0 (io), F10 EMC_AB[11]/IO09PDB0V0 (io), F11 EMC_AB[6]/IO07NDB0V0 (io), F12 EMC_AB[12]/IO10NDB0V0 (io), F14 GCB1/IO19PPB0V0 (io), F17 GCB0/IO19NPB0V0 (io), G13 GCA0/IO20NPB0V0 (io)
part B pins: E19 GCB2/IO22PPB1V0 (io), E21 IO21NDB1V0 (io), F19 IO23NDB1V0 (io), F21 GCA2/IO21PDB1V0 (io), G17 IO22NPB1V0 (io), G19 GCC2/IO23PDB1V0 (io)
part C pins: M5 GPIO_5/IO28RSB4V0 (io), N5 GPIO_4/IO29RSB4V0 (io), N6 GPIO_8/IO25RSB4V0 (io), N7 GPIO_9/IO24RSB4V0 (io), P1 GPIO_0/IO33RSB4V0 (io), P3 GPIO_7/IO26RSB4V0 (io), P5 GPIO_6/IO27RSB4V0 (io), R1 GPIO_2/IO31RSB4V0 (io), R3 GPIO_1/IO32RSB4V0 (io), R5 GPIO_3/IO30RSB4V0 (io), R6 GPIO_10/IO35RSB4V0 (io), T6 GPIO_11/IO34RSB4V0 (io)
part D pins: C1 EMC_DB[15]/IO45PDB5V0 (io), D1 EMC_DB[14]/IO45NDB5V0 (io), E1 EMC_DB[13]/IO44PDB5V0 (io), E3 EMC_DB[12]/IO44NDB5V0 (io), F3 GFB2/IO42NDB5V0 (io), F5 GFA2/IO42PDB5V0 (io), F6 EMC_DB[11]/IO43PDB5V0 (io), G1 IO41NDB5V0 (io), G3 GFC2/IO41PDB5V0 (io), G6 EMC_DB[10]/IO43NDB5V0 (io), H1 EMC_DB[9]/IO40PPB5V0 (io), H6 EMC_DB[7]/IO39PDB5V0 (io), J1 EMC_DB[4]/IO38NPB5V0 (io), J3 EMC_DB[8]/IO40NPB5V0 (io), J5 EMC_DB[1]/IO36PDB5V0 (io), J6 EMC_DB[6]/IO39NDB5V0 (io), K3 EMC_DB[5]/IO38PPB5V0 (io), K5 EMC_DB[0]/IO36NDB5V0 (io), K6 EMC_DB[3]/IO37PPB5V0 (io), L5 EMC_DB[2]/IO37NPB5V0 (io)
part E pins: M16 TMS (in), M19 TDO (out), M21 TRSTB (in), N16 TCK (in), N17 TDI (in), P16 JTAGSEL (in)
part F pins: AA18 PU_N (in), AA20 PTEM, K16 LPXOUT (out), K21 MAINXIN (in), L19 LPXIN (in), L21 MAINXOUT (out), M3 MSS_RESET_N (in), W1 PCAP, W3 NCAP, W19 PTBASE
part G pins: P17 I2C_0_SCL/GPIO_23 (io), R16 UART_1_RXD/GPIO_29 (io), R17 UART_1_TXD/GPIO_28 (io), R19 I2C_0_SDA/GPIO_22 (io), R21 I2C_1_SDA/GPIO_30 (io), T15 SPI_1_SS/GPIO_27 (io), T17 UART_0_RXD/GPIO_21 (io), T19 UART_0_TXD/GPIO_20 (io), T21 I2C_1_SCL/GPIO_31 (io), U15 SPI_1_CLK/GPIO_26 (io), U16 SPI_0_CLK/GPIO_18 (io), U17 SPI_0_SS/GPIO_19 (io), U21 SPI_1_DO/GPIO_24 (io), V19 SPI_1_DI/GPIO_25 (io), W21 SPI_0_DI/GPIO_17 (io), Y21 SPI_0_DO/GPIO_16 (io)
part H pins: AA1 ADC1 (in), AA5 SDD0 (out), AA6 ADC0 (in), AA11 ADC9 (in), AA12 ABPS1 (in), AA13 ADC6 (in), T13 ADC7 (in), T14 TM0 (in), U12 ADC10 (in), U13 ABPS0 (in), W4 ADC2 (in), W5 ADC3 (in), W6 ADC4 (in), W12 ADC8 (in), W13 CM0 (in), W14 ADC5 (in)
part I pins: A1 VCCFPGAIOB0 (power), A9 VCCFPGAIOB0 (power), A17 VCCFPGAIOB0 (power), AA4 VCC33N (power), AA17 VAREFOUT (power), AA19 VCC33A (power), C4 VCCPLL0 (power), C5 VCCFPGAIOB0 (power), C11 VCCFPGAIOB0 (power), D3 VCCFPGAIOB5 (power), D21 VCCFPGAIOB1 (power), F1 VCCFPGAIOB5 (power), F9 VCCFPGAIOB0 (power), F16 VCCFPGAIOB1 (power), H9 VCC (power), H11 VCC (power), H13 VCC (power), H19 VCCFPGAIOB1 (power), J7 VCCFPGAIOB5 (power), J8 VCC (power), J10 VCC (power), J12 VCC (power), J14 VCC (power), J15 VPP (power), J19 VCCMAINXTAL (power), K9 VCC (power), K11 VCC (power), K13 VCC (power), L3 VCCFPGAIOB5 (power), L8 VCC (power), L10 VCC (power), L12 VCC (power), L14 VCC (power), L16 VCCLPXTAL (power), L17 VDDBAT (power), M1 VCCRCOSC (power), M9 VCC (power), M11 VCC (power), M13 VCC (power), M17 VJTAG (power), N1 VCCMSSIOB4 (power), N8 VCC (power), N10 VCC (power), N12 VCC (power), N14 VCC (power), N21 VCCENVM (power), P6 VCCMSSIOB4 (power), P9 VCC (power), P11 VCC (power), P13 VCC (power), P19 VCCMSSIOB2 (power), T12 VAREF0 (power), T16 VCCMSSIOB2 (power), U3 VCCMSSIOB4 (power), U5 VCC33SDD0 (power), U6 VCC15A (power), U11 VCC33ADC0 (power), V21 VCCMSSIOB2 (power), W10 VCC15ADC0 (power), Y1 VCC33AP (power)
part J pins: A2 GNDQ (power), A5 GND (power), A13 GND (power), A20 GNDQ (power), A21 GND (power), AA2 GNDAQ (power), AA3 GNDA (power), AA16 GNDVAREF (power), AA21 GND (power), B1 GND (power), C3 VCOMPLA0 (power), C7 GND (power), C15 GND (power), D19 GND (power), E5 GNDQ (power), F7 GND (power), F13 GND (power), F15 GNDQ (power), G21 GND (power), H3 GND (power), H8 GND (power), H10 GND (power), H12 GND (power), H14 GND (power), J9 GND (power), J11 GND (power), J13 GND (power), K1 GND (power), K8 GND (power), K10 GND (power), K12 GND (power), K14 GND (power), K17 GNDLPXTAL (power), K19 GNDMAINXTAL (power), L1 GNDRCOSC (power), L9 GND (power), L13 GND (power), M6 GND (power), M8 GND (power), M10 GND (power), M12 GND (power), M14 GND (power), N3 GND (power), N9 GND (power), N11 GND (power), N13 GND (power), N15 GND (power), N19 GNDENVM (power), P8 GND (power), P10 GND (power), P12 GND (power), P14 GND (power), P21 GND (power), R9 GNDA (power), R13 GNDA (power), T1 GND (power), T11 GND33ADC0 (power), U10 GND15ADC0 (power), U14 GNDTM0 (power), U19 GND (power), V3 GNDSDD0 (power), W11 GND33ADC0 (power), W16 GNDAQ (power)
part K pins: AA7 NC, AA8 NC, AA9 NC, AA10 NC, AA14 NC, AA15 NC, C18 NC, C19 NC, F8 NC, G5 NC, G9 NC, G16 NC, H5 NC, H16 NC, H17 NC, H21 NC, J16 NC, J17 NC, J21 NC, L6 NC, T3 NC, T5 NC, T7 NC, T8 NC, T9 NC, T10 NC, U1 NC, U7 NC, U8 NC, U9 NC, V1 NC, W7 NC, W8 NC, W9 NC, W15 NC, W17 NC, W18 NC
part A text: BANK 0
part B text: BANK 1
part C text: BANK 4
part D text: BANK 5

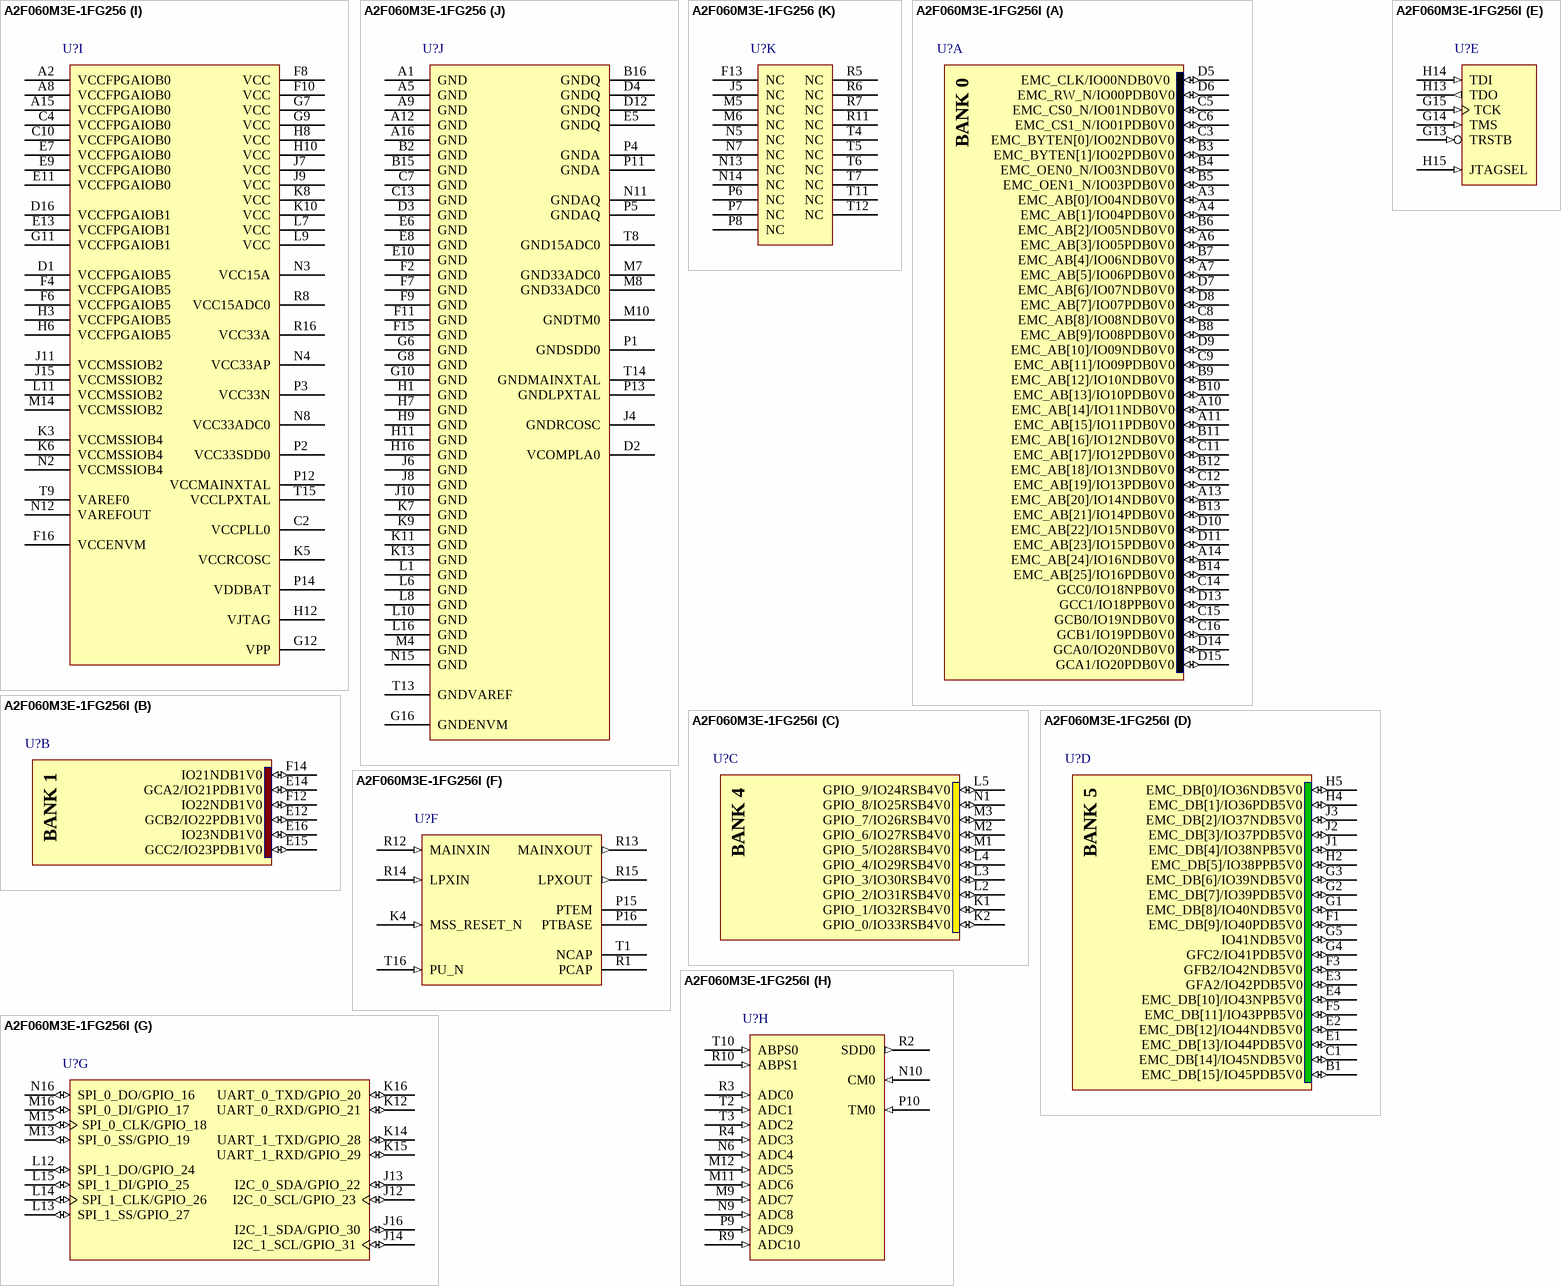
[diagram p4: symbols A2F060M3E-1FG256 to A2F060M3E-1FG256I]

## A2F060M3E-1FG256
designator U?
SmartFusion Intellegent Mixed-Signal FPGA with ARM Cortex-M3, 60000 System Gates, 256-Pin FBGA, 15% Faster than Standard Speed Grade, Commercial Grade; DatasheetVersion: rev7, Aug-2011; PackageVersion: rev39, Aug-2010; PackageReference: FG256; PackageDescription: 256-Ball Fine Pitch Plastic Ball Grid Array 1.00 mm Pitch (FG256); Code_JEDEC: MO-192-DAF-1; ComponentLink1Description: Manufacturer URL; ComponentLink1URL: http://www.actel.com/; ComponentLink2Description: SmartFusion Datasheet; ComponentLink2URL: http://www.actel.com/documents/SmartFusion_DS.pdf; ComponentLink3Description: Package Mechanical Drawings; ComponentLink3URL: http://www.actel.com/documents/PckgMechDrwngs.pdf; ComponentLink4Description: SmartFusion Documents; ComponentLink4URL: http://www.actel.com/products/smartfusion/docs.aspx
footprint FG256 (BGA, 256-Leads, Body 17x17mm, Pitch 1mm)
part A pins: A3 EMC_AB[0]/IO04NDB0V0 (io), A4 EMC_AB[1]/IO04PDB0V0 (io), A6 EMC_AB[3]/IO05PDB0V0 (io), A7 EMC_AB[5]/IO06PDB0V0 (io), A10 EMC_AB[14]/IO11NDB0V0 (io), A11 EMC_AB[15]/IO11PDB0V0 (io), A13 EMC_AB[20]/IO14NDB0V0 (io), A14 EMC_AB[24]/IO16NDB0V0 (io), B3 EMC_BYTEN[1]/IO02PDB0V0 (io), B4 EMC_OEN0_N/IO03NDB0V0 (io), B5 EMC_OEN1_N/IO03PDB0V0 (io), B6 EMC_AB[2]/IO05NDB0V0 (io), B7 EMC_AB[4]/IO06NDB0V0 (io), B8 EMC_AB[9]/IO08PDB0V0 (io), B9 EMC_AB[12]/IO10NDB0V0 (io), B10 EMC_AB[13]/IO10PDB0V0 (io), B11 EMC_AB[16]/IO12NDB0V0 (io), B12 EMC_AB[18]/IO13NDB0V0 (io), B13 EMC_AB[21]/IO14PDB0V0 (io), B14 EMC_AB[25]/IO16PDB0V0 (io), C3 EMC_BYTEN[0]/IO02NDB0V0 (io), C5 EMC_CS0_N/IO01NDB0V0 (io), C6 EMC_CS1_N/IO01PDB0V0 (io), C8 EMC_AB[8]/IO08NDB0V0 (io), C9 EMC_AB[11]/IO09PDB0V0 (io), C11 EMC_AB[17]/IO12PDB0V0 (io), C12 EMC_AB[19]/IO13PDB0V0 (io), C14 GCC0/IO18NPB0V0 (io), C15 GCB0/IO19NDB0V0 (io), C16 GCB1/IO19PDB0V0 (io), D5 EMC_CLK/IO00NDB0V0 (io), D6 EMC_RW_N/IO00PDB0V0 (io), D7 EMC_AB[6]/IO07NDB0V0 (io), D8 EMC_AB[7]/IO07PDB0V0 (io), D9 EMC_AB[10]/IO09NDB0V0 (io), D10 EMC_AB[22]/IO15NDB0V0 (io), D11 EMC_AB[23]/IO15PDB0V0 (io), D13 GCC1/IO18PPB0V0 (io), D14 GCA0/IO20NDB0V0 (io), D15 GCA1/IO20PDB0V0 (io)
part B pins: E12 GCB2/IO22PDB1V0 (io), E14 GCA2/IO21PDB1V0 (io), E15 GCC2/IO23PDB1V0 (io), E16 IO23NDB1V0 (io), F12 IO22NDB1V0 (io), F14 IO21NDB1V0 (io)
part C pins: K1 GPIO_1/IO32RSB4V0 (io), K2 GPIO_0/IO33RSB4V0 (io), L2 GPIO_2/IO31RSB4V0 (io), L3 GPIO_3/IO30RSB4V0 (io), L4 GPIO_4/IO29RSB4V0 (io), L5 GPIO_9/IO24RSB4V0 (io), M1 GPIO_5/IO28RSB4V0 (io), M2 GPIO_6/IO27RSB4V0 (io), M3 GPIO_7/IO26RSB4V0 (io), N1 GPIO_8/IO25RSB4V0 (io)
part D pins: B1 EMC_DB[15]/IO45PDB5V0 (io), C1 EMC_DB[14]/IO45NDB5V0 (io), E1 EMC_DB[13]/IO44PDB5V0 (io), E2 EMC_DB[12]/IO44NDB5V0 (io), E3 GFA2/IO42PDB5V0 (io), E4 EMC_DB[10]/IO43NPB5V0 (io), F1 EMC_DB[9]/IO40PDB5V0 (io), F3 GFB2/IO42NDB5V0 (io), F5 EMC_DB[11]/IO43PPB5V0 (io), G1 EMC_DB[8]/IO40NDB5V0 (io), G2 EMC_DB[7]/IO39PDB5V0 (io), G3 EMC_DB[6]/IO39NDB5V0 (io), G4 GFC2/IO41PDB5V0 (io), G5 IO41NDB5V0 (io), H2 EMC_DB[5]/IO38PPB5V0 (io), H4 EMC_DB[1]/IO36PDB5V0 (io), H5 EMC_DB[0]/IO36NDB5V0 (io), J1 EMC_DB[4]/IO38NPB5V0 (io), J2 EMC_DB[3]/IO37PDB5V0 (io), J3 EMC_DB[2]/IO37NDB5V0 (io)
part E pins: G13 TRSTB (in), G14 TMS (in), G15 TCK (in), H13 TDO (out), H14 TDI (in), H15 JTAGSEL (in)
part F pins: K4 MSS_RESET_N (in), P15 PTEM, P16 PTBASE, R1 PCAP, R12 MAINXIN (in), R13 MAINXOUT (out), R14 LPXIN (in), R15 LPXOUT (out), T1 NCAP, T16 PU_N (in)
part G pins: J12 I2C_0_SCL/GPIO_23 (io), J13 I2C_0_SDA/GPIO_22 (io), J14 I2C_1_SCL/GPIO_31 (io), J16 I2C_1_SDA/GPIO_30 (io), K12 UART_0_RXD/GPIO_21 (io), K14 UART_1_TXD/GPIO_28 (io), K15 UART_1_RXD/GPIO_29 (io), K16 UART_0_TXD/GPIO_20 (io), L12 SPI_1_DO/GPIO_24 (io), L13 SPI_1_SS/GPIO_27 (io), L14 SPI_1_CLK/GPIO_26 (io), L15 SPI_1_DI/GPIO_25 (io), M13 SPI_0_SS/GPIO_19 (io), M15 SPI_0_CLK/GPIO_18 (io), M16 SPI_0_DI/GPIO_17 (io), N16 SPI_0_DO/GPIO_16 (io)
part H pins: M9 ADC7 (in), M11 ADC6 (in), M12 ADC5 (in), N6 ADC4 (in), N9 ADC8 (in), N10 CM0 (in), P9 ADC9 (in), P10 TM0 (in), R2 SDD0 (out), R3 ADC0 (in), R4 ADC3 (in), R9 ADC10 (in), R10 ABPS1 (in), T2 ADC1 (in), T3 ADC2 (in), T10 ABPS0 (in)
part I pins: A2 VCCFPGAIOB0 (power), A8 VCCFPGAIOB0 (power), A15 VCCFPGAIOB0 (power), C2 VCCPLL0 (power), C4 VCCFPGAIOB0 (power), C10 VCCFPGAIOB0 (power), D1 VCCFPGAIOB5 (power), D16 VCCFPGAIOB1 (power), E7 VCCFPGAIOB0 (power), E9 VCCFPGAIOB0 (power), E11 VCCFPGAIOB0 (power), E13 VCCFPGAIOB1 (power), F4 VCCFPGAIOB5 (power), F6 VCCFPGAIOB5 (power), F8 VCC (power), F10 VCC (power), F16 VCCENVM (power), G7 VCC (power), G9 VCC (power), G11 VCCFPGAIOB1 (power), G12 VPP (power), H3 VCCFPGAIOB5 (power), H6 VCCFPGAIOB5 (power), H8 VCC (power), H10 VCC (power), H12 VJTAG (power), J7 VCC (power), J9 VCC (power), J11 VCCMSSIOB2 (power), J15 VCCMSSIOB2 (power), K3 VCCMSSIOB4 (power), K5 VCCRCOSC (power), K6 VCCMSSIOB4 (power), K8 VCC (power), K10 VCC (power), L7 VCC (power), L9 VCC (power), L11 VCCMSSIOB2 (power), M14 VCCMSSIOB2 (power), N2 VCCMSSIOB4 (power), N3 VCC15A (power), N4 VCC33AP (power), N8 VCC33ADC0 (power), N12 VAREFOUT (power), P2 VCC33SDD0 (power), P3 VCC33N (power), P12 VCCMAINXTAL (power), P14 VDDBAT (power), R8 VCC15ADC0 (power), R16 VCC33A (power), T9 VAREF0 (power), T15 VCCLPXTAL (power)
part J pins: A1 GND (power), A5 GND (power), A9 GND (power), A12 GND (power), A16 GND (power), B2 GND (power), B15 GND (power), B16 GNDQ (power), C7 GND (power), C13 GND (power), D2 VCOMPLA0 (power), D3 GND (power), D4 GNDQ (power), D12 GNDQ (power), E5 GNDQ (power), E6 GND (power), E8 GND (power), E10 GND (power), F2 GND (power), F7 GND (power), F9 GND (power), F11 GND (power), F15 GND (power), G6 GND (power), G8 GND (power), G10 GND (power), G16 GNDENVM (power), H1 GND (power), H7 GND (power), H9 GND (power), H11 GND (power), H16 GND (power), J4 GNDRCOSC (power), J6 GND (power), J8 GND (power), J10 GND (power), K7 GND (power), K9 GND (power), K11 GND (power), K13 GND (power), L1 GND (power), L6 GND (power), L8 GND (power), L10 GND (power), L16 GND (power), M4 GND (power), M7 GND33ADC0 (power), M8 GND33ADC0 (power), M10 GNDTM0 (power), N11 GNDAQ (power), N15 GND (power), P1 GNDSDD0 (power), P4 GNDA (power), P5 GNDAQ (power), P11 GNDA (power), P13 GNDLPXTAL (power), T8 GND15ADC0 (power), T13 GNDVAREF (power), T14 GNDMAINXTAL (power)
part K pins: F13 NC, J5 NC, M5 NC, M6 NC, N5 NC, N7 NC, N13 NC, N14 NC, P6 NC, P7 NC, P8 NC, R5 NC, R6 NC, R7 NC, R11 NC, T4 NC, T5 NC, T6 NC, T7 NC, T11 NC, T12 NC
part A text: BANK 0
part B text: BANK 1
part C text: BANK 4
part D text: BANK 5

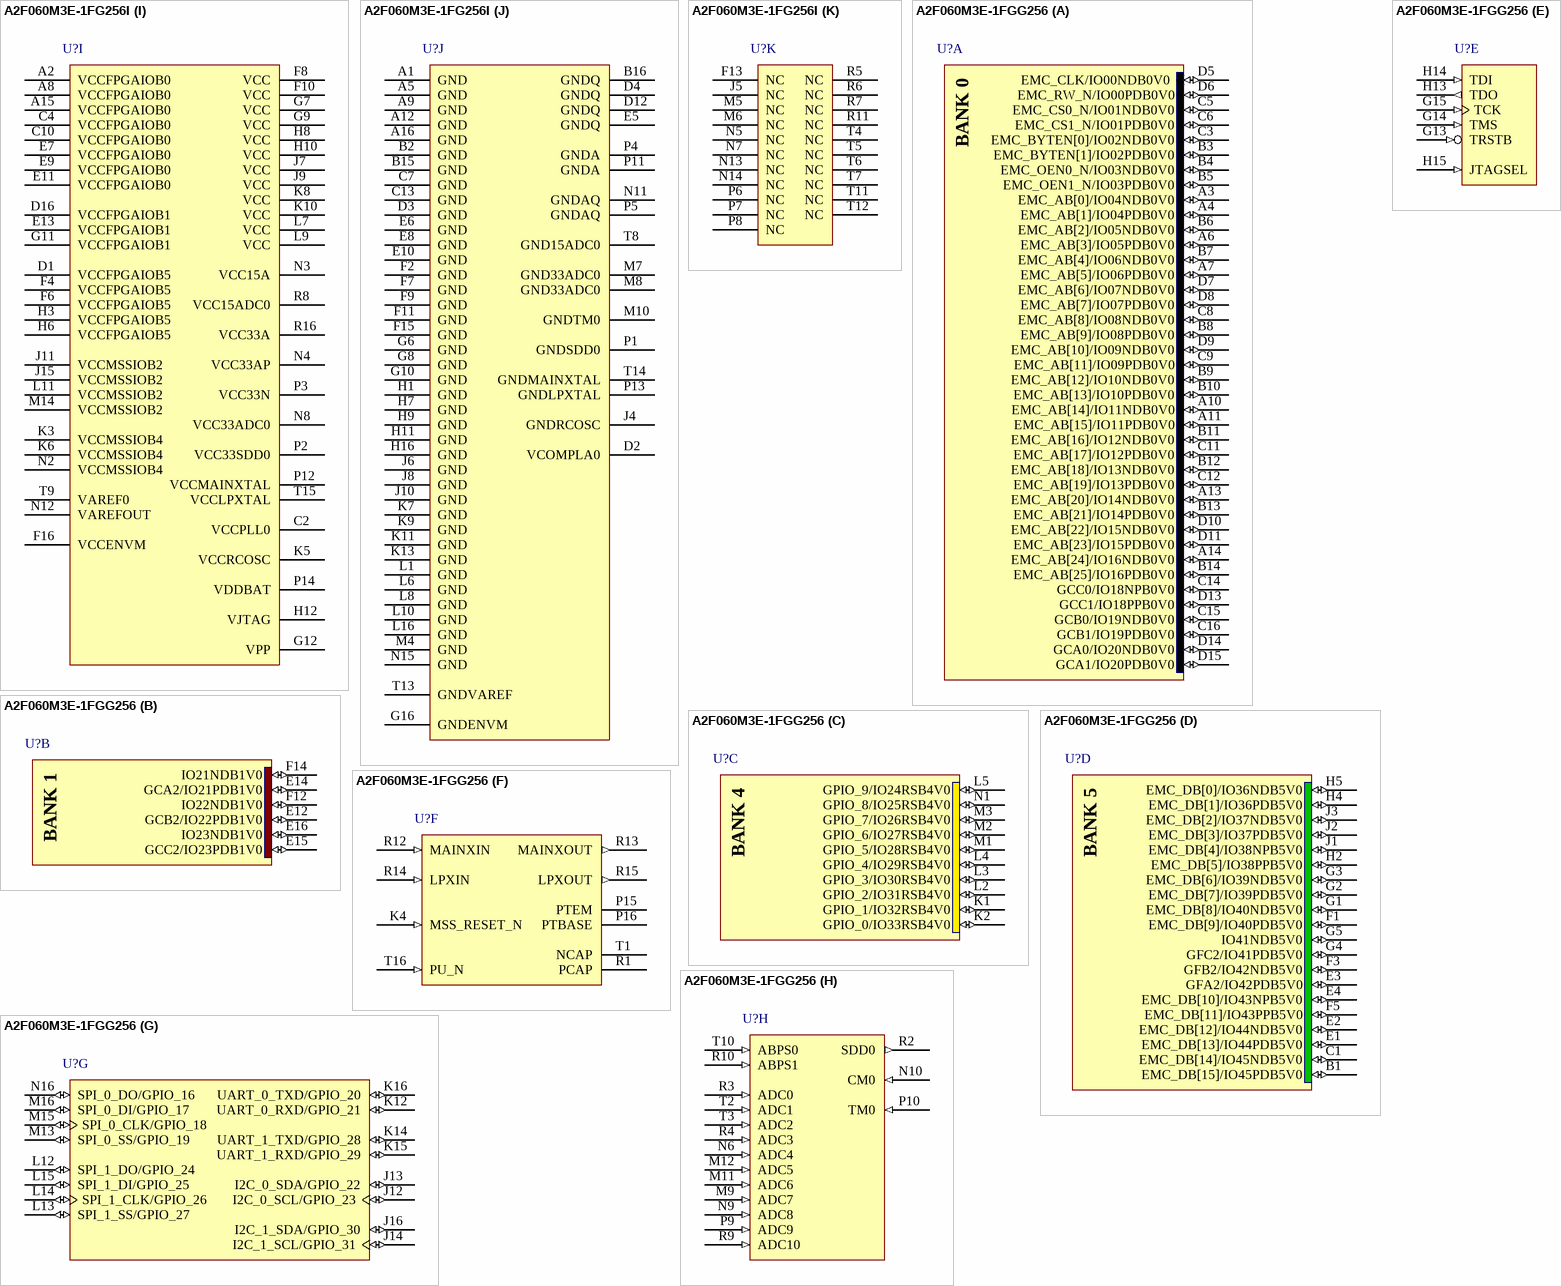
[diagram p5: symbols A2F060M3E-1FG256I to A2F060M3E-1FGG256]

## A2F060M3E-1FG256I
designator U?
SmartFusion Intellegent Mixed-Signal FPGA with ARM Cortex-M3, 60000 System Gates, 256-Pin FBGA, 15% Faster than Standard Speed Grade, Industrial Grade; DatasheetVersion: rev7, Aug-2011; PackageVersion: rev39, Aug-2010; PackageReference: FG256; PackageDescription: 256-Ball Fine Pitch Plastic Ball Grid Array 1.00 mm Pitch (FG256); Code_JEDEC: MO-192-DAF-1; ComponentLink1Description: Manufacturer URL; ComponentLink1URL: http://www.actel.com/; ComponentLink2Description: SmartFusion Datasheet; ComponentLink2URL: http://www.actel.com/documents/SmartFusion_DS.pdf; ComponentLink3Description: Package Mechanical Drawings; ComponentLink3URL: http://www.actel.com/documents/PckgMechDrwngs.pdf; ComponentLink4Description: SmartFusion Documents; ComponentLink4URL: http://www.actel.com/products/smartfusion/docs.aspx
footprint FG256 (BGA, 256-Leads, Body 17x17mm, Pitch 1mm)
part A pins: A3 EMC_AB[0]/IO04NDB0V0 (io), A4 EMC_AB[1]/IO04PDB0V0 (io), A6 EMC_AB[3]/IO05PDB0V0 (io), A7 EMC_AB[5]/IO06PDB0V0 (io), A10 EMC_AB[14]/IO11NDB0V0 (io), A11 EMC_AB[15]/IO11PDB0V0 (io), A13 EMC_AB[20]/IO14NDB0V0 (io), A14 EMC_AB[24]/IO16NDB0V0 (io), B3 EMC_BYTEN[1]/IO02PDB0V0 (io), B4 EMC_OEN0_N/IO03NDB0V0 (io), B5 EMC_OEN1_N/IO03PDB0V0 (io), B6 EMC_AB[2]/IO05NDB0V0 (io), B7 EMC_AB[4]/IO06NDB0V0 (io), B8 EMC_AB[9]/IO08PDB0V0 (io), B9 EMC_AB[12]/IO10NDB0V0 (io), B10 EMC_AB[13]/IO10PDB0V0 (io), B11 EMC_AB[16]/IO12NDB0V0 (io), B12 EMC_AB[18]/IO13NDB0V0 (io), B13 EMC_AB[21]/IO14PDB0V0 (io), B14 EMC_AB[25]/IO16PDB0V0 (io), C3 EMC_BYTEN[0]/IO02NDB0V0 (io), C5 EMC_CS0_N/IO01NDB0V0 (io), C6 EMC_CS1_N/IO01PDB0V0 (io), C8 EMC_AB[8]/IO08NDB0V0 (io), C9 EMC_AB[11]/IO09PDB0V0 (io), C11 EMC_AB[17]/IO12PDB0V0 (io), C12 EMC_AB[19]/IO13PDB0V0 (io), C14 GCC0/IO18NPB0V0 (io), C15 GCB0/IO19NDB0V0 (io), C16 GCB1/IO19PDB0V0 (io), D5 EMC_CLK/IO00NDB0V0 (io), D6 EMC_RW_N/IO00PDB0V0 (io), D7 EMC_AB[6]/IO07NDB0V0 (io), D8 EMC_AB[7]/IO07PDB0V0 (io), D9 EMC_AB[10]/IO09NDB0V0 (io), D10 EMC_AB[22]/IO15NDB0V0 (io), D11 EMC_AB[23]/IO15PDB0V0 (io), D13 GCC1/IO18PPB0V0 (io), D14 GCA0/IO20NDB0V0 (io), D15 GCA1/IO20PDB0V0 (io)
part B pins: E12 GCB2/IO22PDB1V0 (io), E14 GCA2/IO21PDB1V0 (io), E15 GCC2/IO23PDB1V0 (io), E16 IO23NDB1V0 (io), F12 IO22NDB1V0 (io), F14 IO21NDB1V0 (io)
part C pins: K1 GPIO_1/IO32RSB4V0 (io), K2 GPIO_0/IO33RSB4V0 (io), L2 GPIO_2/IO31RSB4V0 (io), L3 GPIO_3/IO30RSB4V0 (io), L4 GPIO_4/IO29RSB4V0 (io), L5 GPIO_9/IO24RSB4V0 (io), M1 GPIO_5/IO28RSB4V0 (io), M2 GPIO_6/IO27RSB4V0 (io), M3 GPIO_7/IO26RSB4V0 (io), N1 GPIO_8/IO25RSB4V0 (io)
part D pins: B1 EMC_DB[15]/IO45PDB5V0 (io), C1 EMC_DB[14]/IO45NDB5V0 (io), E1 EMC_DB[13]/IO44PDB5V0 (io), E2 EMC_DB[12]/IO44NDB5V0 (io), E3 GFA2/IO42PDB5V0 (io), E4 EMC_DB[10]/IO43NPB5V0 (io), F1 EMC_DB[9]/IO40PDB5V0 (io), F3 GFB2/IO42NDB5V0 (io), F5 EMC_DB[11]/IO43PPB5V0 (io), G1 EMC_DB[8]/IO40NDB5V0 (io), G2 EMC_DB[7]/IO39PDB5V0 (io), G3 EMC_DB[6]/IO39NDB5V0 (io), G4 GFC2/IO41PDB5V0 (io), G5 IO41NDB5V0 (io), H2 EMC_DB[5]/IO38PPB5V0 (io), H4 EMC_DB[1]/IO36PDB5V0 (io), H5 EMC_DB[0]/IO36NDB5V0 (io), J1 EMC_DB[4]/IO38NPB5V0 (io), J2 EMC_DB[3]/IO37PDB5V0 (io), J3 EMC_DB[2]/IO37NDB5V0 (io)
part E pins: G13 TRSTB (in), G14 TMS (in), G15 TCK (in), H13 TDO (out), H14 TDI (in), H15 JTAGSEL (in)
part F pins: K4 MSS_RESET_N (in), P15 PTEM, P16 PTBASE, R1 PCAP, R12 MAINXIN (in), R13 MAINXOUT (out), R14 LPXIN (in), R15 LPXOUT (out), T1 NCAP, T16 PU_N (in)
part G pins: J12 I2C_0_SCL/GPIO_23 (io), J13 I2C_0_SDA/GPIO_22 (io), J14 I2C_1_SCL/GPIO_31 (io), J16 I2C_1_SDA/GPIO_30 (io), K12 UART_0_RXD/GPIO_21 (io), K14 UART_1_TXD/GPIO_28 (io), K15 UART_1_RXD/GPIO_29 (io), K16 UART_0_TXD/GPIO_20 (io), L12 SPI_1_DO/GPIO_24 (io), L13 SPI_1_SS/GPIO_27 (io), L14 SPI_1_CLK/GPIO_26 (io), L15 SPI_1_DI/GPIO_25 (io), M13 SPI_0_SS/GPIO_19 (io), M15 SPI_0_CLK/GPIO_18 (io), M16 SPI_0_DI/GPIO_17 (io), N16 SPI_0_DO/GPIO_16 (io)
part H pins: M9 ADC7 (in), M11 ADC6 (in), M12 ADC5 (in), N6 ADC4 (in), N9 ADC8 (in), N10 CM0 (in), P9 ADC9 (in), P10 TM0 (in), R2 SDD0 (out), R3 ADC0 (in), R4 ADC3 (in), R9 ADC10 (in), R10 ABPS1 (in), T2 ADC1 (in), T3 ADC2 (in), T10 ABPS0 (in)
part I pins: A2 VCCFPGAIOB0 (power), A8 VCCFPGAIOB0 (power), A15 VCCFPGAIOB0 (power), C2 VCCPLL0 (power), C4 VCCFPGAIOB0 (power), C10 VCCFPGAIOB0 (power), D1 VCCFPGAIOB5 (power), D16 VCCFPGAIOB1 (power), E7 VCCFPGAIOB0 (power), E9 VCCFPGAIOB0 (power), E11 VCCFPGAIOB0 (power), E13 VCCFPGAIOB1 (power), F4 VCCFPGAIOB5 (power), F6 VCCFPGAIOB5 (power), F8 VCC (power), F10 VCC (power), F16 VCCENVM (power), G7 VCC (power), G9 VCC (power), G11 VCCFPGAIOB1 (power), G12 VPP (power), H3 VCCFPGAIOB5 (power), H6 VCCFPGAIOB5 (power), H8 VCC (power), H10 VCC (power), H12 VJTAG (power), J7 VCC (power), J9 VCC (power), J11 VCCMSSIOB2 (power), J15 VCCMSSIOB2 (power), K3 VCCMSSIOB4 (power), K5 VCCRCOSC (power), K6 VCCMSSIOB4 (power), K8 VCC (power), K10 VCC (power), L7 VCC (power), L9 VCC (power), L11 VCCMSSIOB2 (power), M14 VCCMSSIOB2 (power), N2 VCCMSSIOB4 (power), N3 VCC15A (power), N4 VCC33AP (power), N8 VCC33ADC0 (power), N12 VAREFOUT (power), P2 VCC33SDD0 (power), P3 VCC33N (power), P12 VCCMAINXTAL (power), P14 VDDBAT (power), R8 VCC15ADC0 (power), R16 VCC33A (power), T9 VAREF0 (power), T15 VCCLPXTAL (power)
part J pins: A1 GND (power), A5 GND (power), A9 GND (power), A12 GND (power), A16 GND (power), B2 GND (power), B15 GND (power), B16 GNDQ (power), C7 GND (power), C13 GND (power), D2 VCOMPLA0 (power), D3 GND (power), D4 GNDQ (power), D12 GNDQ (power), E5 GNDQ (power), E6 GND (power), E8 GND (power), E10 GND (power), F2 GND (power), F7 GND (power), F9 GND (power), F11 GND (power), F15 GND (power), G6 GND (power), G8 GND (power), G10 GND (power), G16 GNDENVM (power), H1 GND (power), H7 GND (power), H9 GND (power), H11 GND (power), H16 GND (power), J4 GNDRCOSC (power), J6 GND (power), J8 GND (power), J10 GND (power), K7 GND (power), K9 GND (power), K11 GND (power), K13 GND (power), L1 GND (power), L6 GND (power), L8 GND (power), L10 GND (power), L16 GND (power), M4 GND (power), M7 GND33ADC0 (power), M8 GND33ADC0 (power), M10 GNDTM0 (power), N11 GNDAQ (power), N15 GND (power), P1 GNDSDD0 (power), P4 GNDA (power), P5 GNDAQ (power), P11 GNDA (power), P13 GNDLPXTAL (power), T8 GND15ADC0 (power), T13 GNDVAREF (power), T14 GNDMAINXTAL (power)
part K pins: F13 NC, J5 NC, M5 NC, M6 NC, N5 NC, N7 NC, N13 NC, N14 NC, P6 NC, P7 NC, P8 NC, R5 NC, R6 NC, R7 NC, R11 NC, T4 NC, T5 NC, T6 NC, T7 NC, T11 NC, T12 NC
part A text: BANK 0
part B text: BANK 1
part C text: BANK 4
part D text: BANK 5

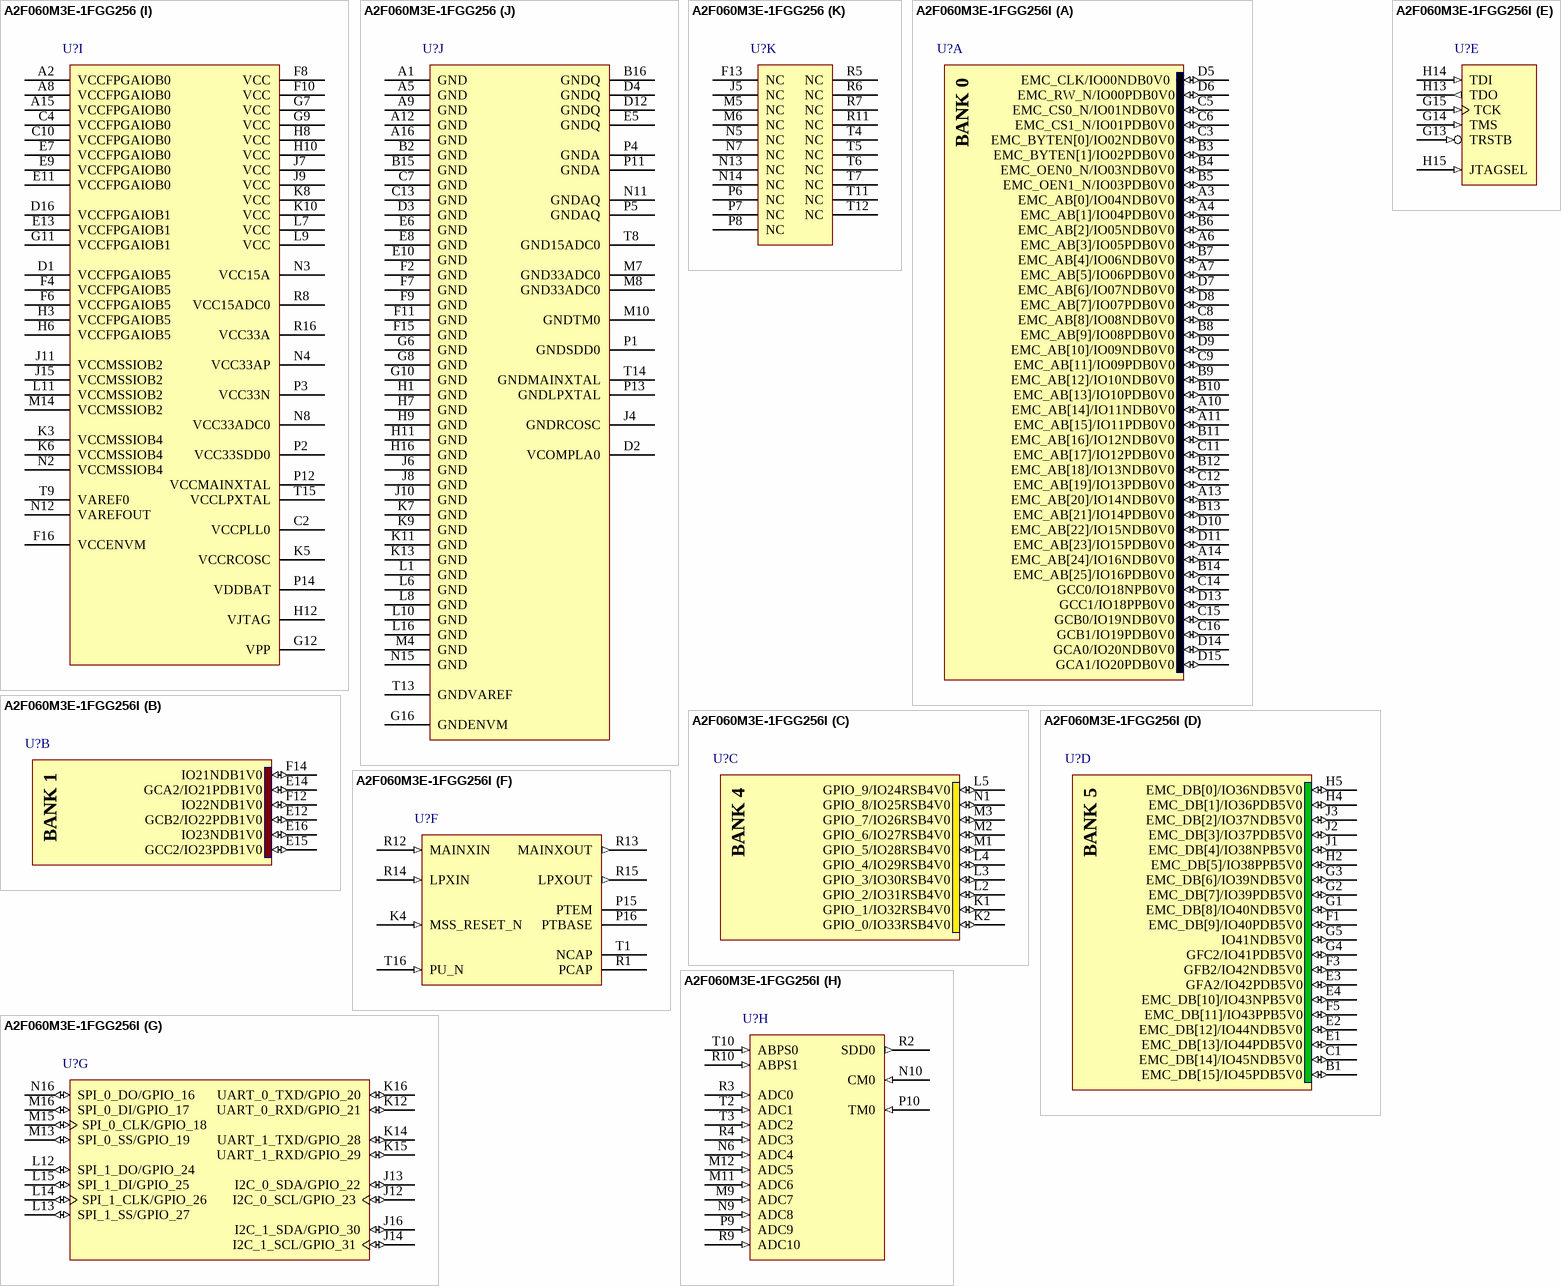
[diagram p6: symbols A2F060M3E-1FGG256 to A2F060M3E-1FGG256I]

## A2F060M3E-1FGG256
designator U?
SmartFusion Intellegent Mixed-Signal FPGA with ARM Cortex-M3, 60000 System Gates, 256-Pin FBGA, 15% Faster than Standard Speed Grade, Commercial Grade, Pb-Free; DatasheetVersion: rev7, Aug-2011; PackageVersion: rev39, Aug-2010; PackageReference: FG256; PackageDescription: 256-Ball Fine Pitch Plastic Ball Grid Array 1.00 mm Pitch (FG256); Code_JEDEC: MO-192-DAF-1; ComponentLink1Description: Manufacturer URL; ComponentLink1URL: http://www.actel.com/; ComponentLink2Description: SmartFusion Datasheet; ComponentLink2URL: http://www.actel.com/documents/SmartFusion_DS.pdf; ComponentLink3Description: Package Mechanical Drawings; ComponentLink3URL: http://www.actel.com/documents/PckgMechDrwngs.pdf; ComponentLink4Description: SmartFusion Documents; ComponentLink4URL: http://www.actel.com/products/smartfusion/docs.aspx
footprint FG256 (BGA, 256-Leads, Body 17x17mm, Pitch 1mm)
part A pins: A3 EMC_AB[0]/IO04NDB0V0 (io), A4 EMC_AB[1]/IO04PDB0V0 (io), A6 EMC_AB[3]/IO05PDB0V0 (io), A7 EMC_AB[5]/IO06PDB0V0 (io), A10 EMC_AB[14]/IO11NDB0V0 (io), A11 EMC_AB[15]/IO11PDB0V0 (io), A13 EMC_AB[20]/IO14NDB0V0 (io), A14 EMC_AB[24]/IO16NDB0V0 (io), B3 EMC_BYTEN[1]/IO02PDB0V0 (io), B4 EMC_OEN0_N/IO03NDB0V0 (io), B5 EMC_OEN1_N/IO03PDB0V0 (io), B6 EMC_AB[2]/IO05NDB0V0 (io), B7 EMC_AB[4]/IO06NDB0V0 (io), B8 EMC_AB[9]/IO08PDB0V0 (io), B9 EMC_AB[12]/IO10NDB0V0 (io), B10 EMC_AB[13]/IO10PDB0V0 (io), B11 EMC_AB[16]/IO12NDB0V0 (io), B12 EMC_AB[18]/IO13NDB0V0 (io), B13 EMC_AB[21]/IO14PDB0V0 (io), B14 EMC_AB[25]/IO16PDB0V0 (io), C3 EMC_BYTEN[0]/IO02NDB0V0 (io), C5 EMC_CS0_N/IO01NDB0V0 (io), C6 EMC_CS1_N/IO01PDB0V0 (io), C8 EMC_AB[8]/IO08NDB0V0 (io), C9 EMC_AB[11]/IO09PDB0V0 (io), C11 EMC_AB[17]/IO12PDB0V0 (io), C12 EMC_AB[19]/IO13PDB0V0 (io), C14 GCC0/IO18NPB0V0 (io), C15 GCB0/IO19NDB0V0 (io), C16 GCB1/IO19PDB0V0 (io), D5 EMC_CLK/IO00NDB0V0 (io), D6 EMC_RW_N/IO00PDB0V0 (io), D7 EMC_AB[6]/IO07NDB0V0 (io), D8 EMC_AB[7]/IO07PDB0V0 (io), D9 EMC_AB[10]/IO09NDB0V0 (io), D10 EMC_AB[22]/IO15NDB0V0 (io), D11 EMC_AB[23]/IO15PDB0V0 (io), D13 GCC1/IO18PPB0V0 (io), D14 GCA0/IO20NDB0V0 (io), D15 GCA1/IO20PDB0V0 (io)
part B pins: E12 GCB2/IO22PDB1V0 (io), E14 GCA2/IO21PDB1V0 (io), E15 GCC2/IO23PDB1V0 (io), E16 IO23NDB1V0 (io), F12 IO22NDB1V0 (io), F14 IO21NDB1V0 (io)
part C pins: K1 GPIO_1/IO32RSB4V0 (io), K2 GPIO_0/IO33RSB4V0 (io), L2 GPIO_2/IO31RSB4V0 (io), L3 GPIO_3/IO30RSB4V0 (io), L4 GPIO_4/IO29RSB4V0 (io), L5 GPIO_9/IO24RSB4V0 (io), M1 GPIO_5/IO28RSB4V0 (io), M2 GPIO_6/IO27RSB4V0 (io), M3 GPIO_7/IO26RSB4V0 (io), N1 GPIO_8/IO25RSB4V0 (io)
part D pins: B1 EMC_DB[15]/IO45PDB5V0 (io), C1 EMC_DB[14]/IO45NDB5V0 (io), E1 EMC_DB[13]/IO44PDB5V0 (io), E2 EMC_DB[12]/IO44NDB5V0 (io), E3 GFA2/IO42PDB5V0 (io), E4 EMC_DB[10]/IO43NPB5V0 (io), F1 EMC_DB[9]/IO40PDB5V0 (io), F3 GFB2/IO42NDB5V0 (io), F5 EMC_DB[11]/IO43PPB5V0 (io), G1 EMC_DB[8]/IO40NDB5V0 (io), G2 EMC_DB[7]/IO39PDB5V0 (io), G3 EMC_DB[6]/IO39NDB5V0 (io), G4 GFC2/IO41PDB5V0 (io), G5 IO41NDB5V0 (io), H2 EMC_DB[5]/IO38PPB5V0 (io), H4 EMC_DB[1]/IO36PDB5V0 (io), H5 EMC_DB[0]/IO36NDB5V0 (io), J1 EMC_DB[4]/IO38NPB5V0 (io), J2 EMC_DB[3]/IO37PDB5V0 (io), J3 EMC_DB[2]/IO37NDB5V0 (io)
part E pins: G13 TRSTB (in), G14 TMS (in), G15 TCK (in), H13 TDO (out), H14 TDI (in), H15 JTAGSEL (in)
part F pins: K4 MSS_RESET_N (in), P15 PTEM, P16 PTBASE, R1 PCAP, R12 MAINXIN (in), R13 MAINXOUT (out), R14 LPXIN (in), R15 LPXOUT (out), T1 NCAP, T16 PU_N (in)
part G pins: J12 I2C_0_SCL/GPIO_23 (io), J13 I2C_0_SDA/GPIO_22 (io), J14 I2C_1_SCL/GPIO_31 (io), J16 I2C_1_SDA/GPIO_30 (io), K12 UART_0_RXD/GPIO_21 (io), K14 UART_1_TXD/GPIO_28 (io), K15 UART_1_RXD/GPIO_29 (io), K16 UART_0_TXD/GPIO_20 (io), L12 SPI_1_DO/GPIO_24 (io), L13 SPI_1_SS/GPIO_27 (io), L14 SPI_1_CLK/GPIO_26 (io), L15 SPI_1_DI/GPIO_25 (io), M13 SPI_0_SS/GPIO_19 (io), M15 SPI_0_CLK/GPIO_18 (io), M16 SPI_0_DI/GPIO_17 (io), N16 SPI_0_DO/GPIO_16 (io)
part H pins: M9 ADC7 (in), M11 ADC6 (in), M12 ADC5 (in), N6 ADC4 (in), N9 ADC8 (in), N10 CM0 (in), P9 ADC9 (in), P10 TM0 (in), R2 SDD0 (out), R3 ADC0 (in), R4 ADC3 (in), R9 ADC10 (in), R10 ABPS1 (in), T2 ADC1 (in), T3 ADC2 (in), T10 ABPS0 (in)
part I pins: A2 VCCFPGAIOB0 (power), A8 VCCFPGAIOB0 (power), A15 VCCFPGAIOB0 (power), C2 VCCPLL0 (power), C4 VCCFPGAIOB0 (power), C10 VCCFPGAIOB0 (power), D1 VCCFPGAIOB5 (power), D16 VCCFPGAIOB1 (power), E7 VCCFPGAIOB0 (power), E9 VCCFPGAIOB0 (power), E11 VCCFPGAIOB0 (power), E13 VCCFPGAIOB1 (power), F4 VCCFPGAIOB5 (power), F6 VCCFPGAIOB5 (power), F8 VCC (power), F10 VCC (power), F16 VCCENVM (power), G7 VCC (power), G9 VCC (power), G11 VCCFPGAIOB1 (power), G12 VPP (power), H3 VCCFPGAIOB5 (power), H6 VCCFPGAIOB5 (power), H8 VCC (power), H10 VCC (power), H12 VJTAG (power), J7 VCC (power), J9 VCC (power), J11 VCCMSSIOB2 (power), J15 VCCMSSIOB2 (power), K3 VCCMSSIOB4 (power), K5 VCCRCOSC (power), K6 VCCMSSIOB4 (power), K8 VCC (power), K10 VCC (power), L7 VCC (power), L9 VCC (power), L11 VCCMSSIOB2 (power), M14 VCCMSSIOB2 (power), N2 VCCMSSIOB4 (power), N3 VCC15A (power), N4 VCC33AP (power), N8 VCC33ADC0 (power), N12 VAREFOUT (power), P2 VCC33SDD0 (power), P3 VCC33N (power), P12 VCCMAINXTAL (power), P14 VDDBAT (power), R8 VCC15ADC0 (power), R16 VCC33A (power), T9 VAREF0 (power), T15 VCCLPXTAL (power)
part J pins: A1 GND (power), A5 GND (power), A9 GND (power), A12 GND (power), A16 GND (power), B2 GND (power), B15 GND (power), B16 GNDQ (power), C7 GND (power), C13 GND (power), D2 VCOMPLA0 (power), D3 GND (power), D4 GNDQ (power), D12 GNDQ (power), E5 GNDQ (power), E6 GND (power), E8 GND (power), E10 GND (power), F2 GND (power), F7 GND (power), F9 GND (power), F11 GND (power), F15 GND (power), G6 GND (power), G8 GND (power), G10 GND (power), G16 GNDENVM (power), H1 GND (power), H7 GND (power), H9 GND (power), H11 GND (power), H16 GND (power), J4 GNDRCOSC (power), J6 GND (power), J8 GND (power), J10 GND (power), K7 GND (power), K9 GND (power), K11 GND (power), K13 GND (power), L1 GND (power), L6 GND (power), L8 GND (power), L10 GND (power), L16 GND (power), M4 GND (power), M7 GND33ADC0 (power), M8 GND33ADC0 (power), M10 GNDTM0 (power), N11 GNDAQ (power), N15 GND (power), P1 GNDSDD0 (power), P4 GNDA (power), P5 GNDAQ (power), P11 GNDA (power), P13 GNDLPXTAL (power), T8 GND15ADC0 (power), T13 GNDVAREF (power), T14 GNDMAINXTAL (power)
part K pins: F13 NC, J5 NC, M5 NC, M6 NC, N5 NC, N7 NC, N13 NC, N14 NC, P6 NC, P7 NC, P8 NC, R5 NC, R6 NC, R7 NC, R11 NC, T4 NC, T5 NC, T6 NC, T7 NC, T11 NC, T12 NC
part A text: BANK 0
part B text: BANK 1
part C text: BANK 4
part D text: BANK 5

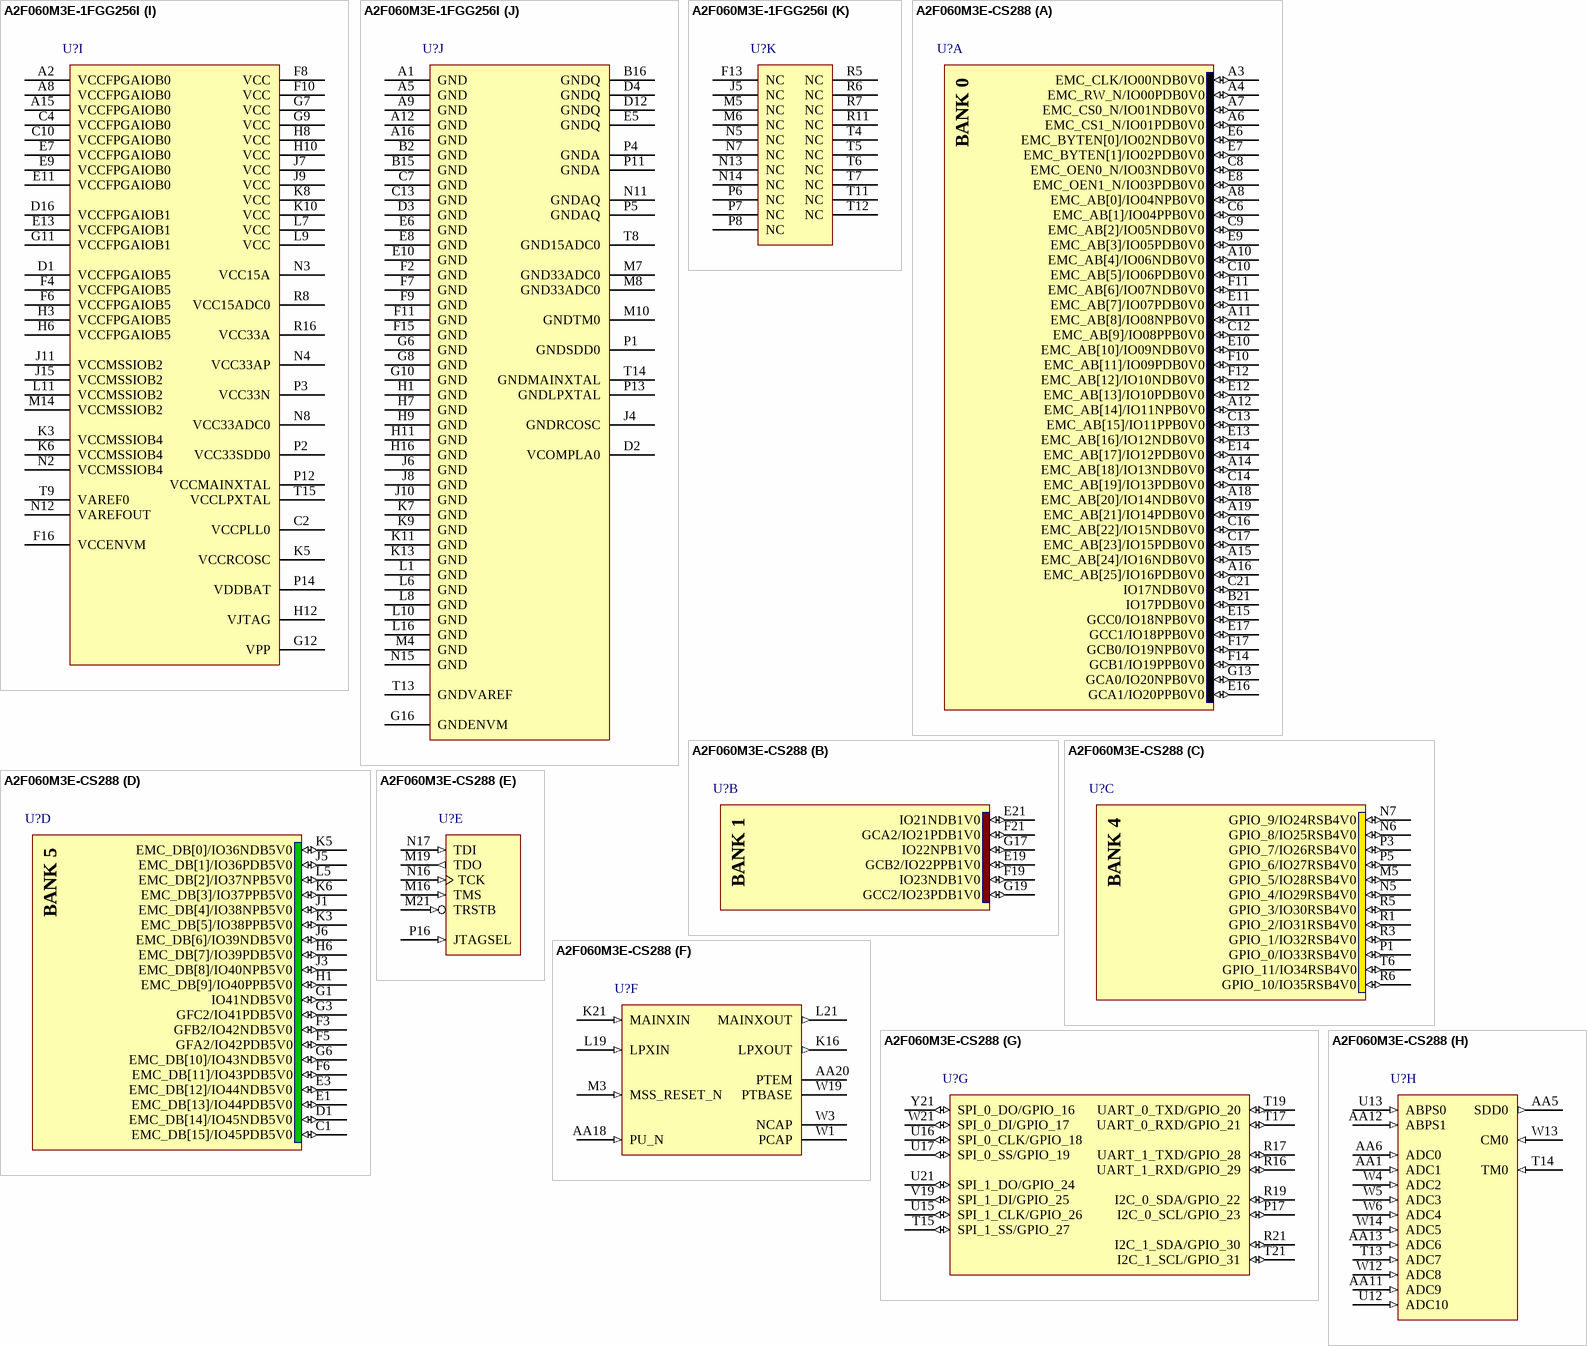
[diagram p7: symbols A2F060M3E-1FGG256I to A2F060M3E-CS288]